# Altium schematic symbol library eLIB.SchLib: 178 symbols (part 1 of 2)
Pins are listed as number, name and electrical type; pins without a type are passive.

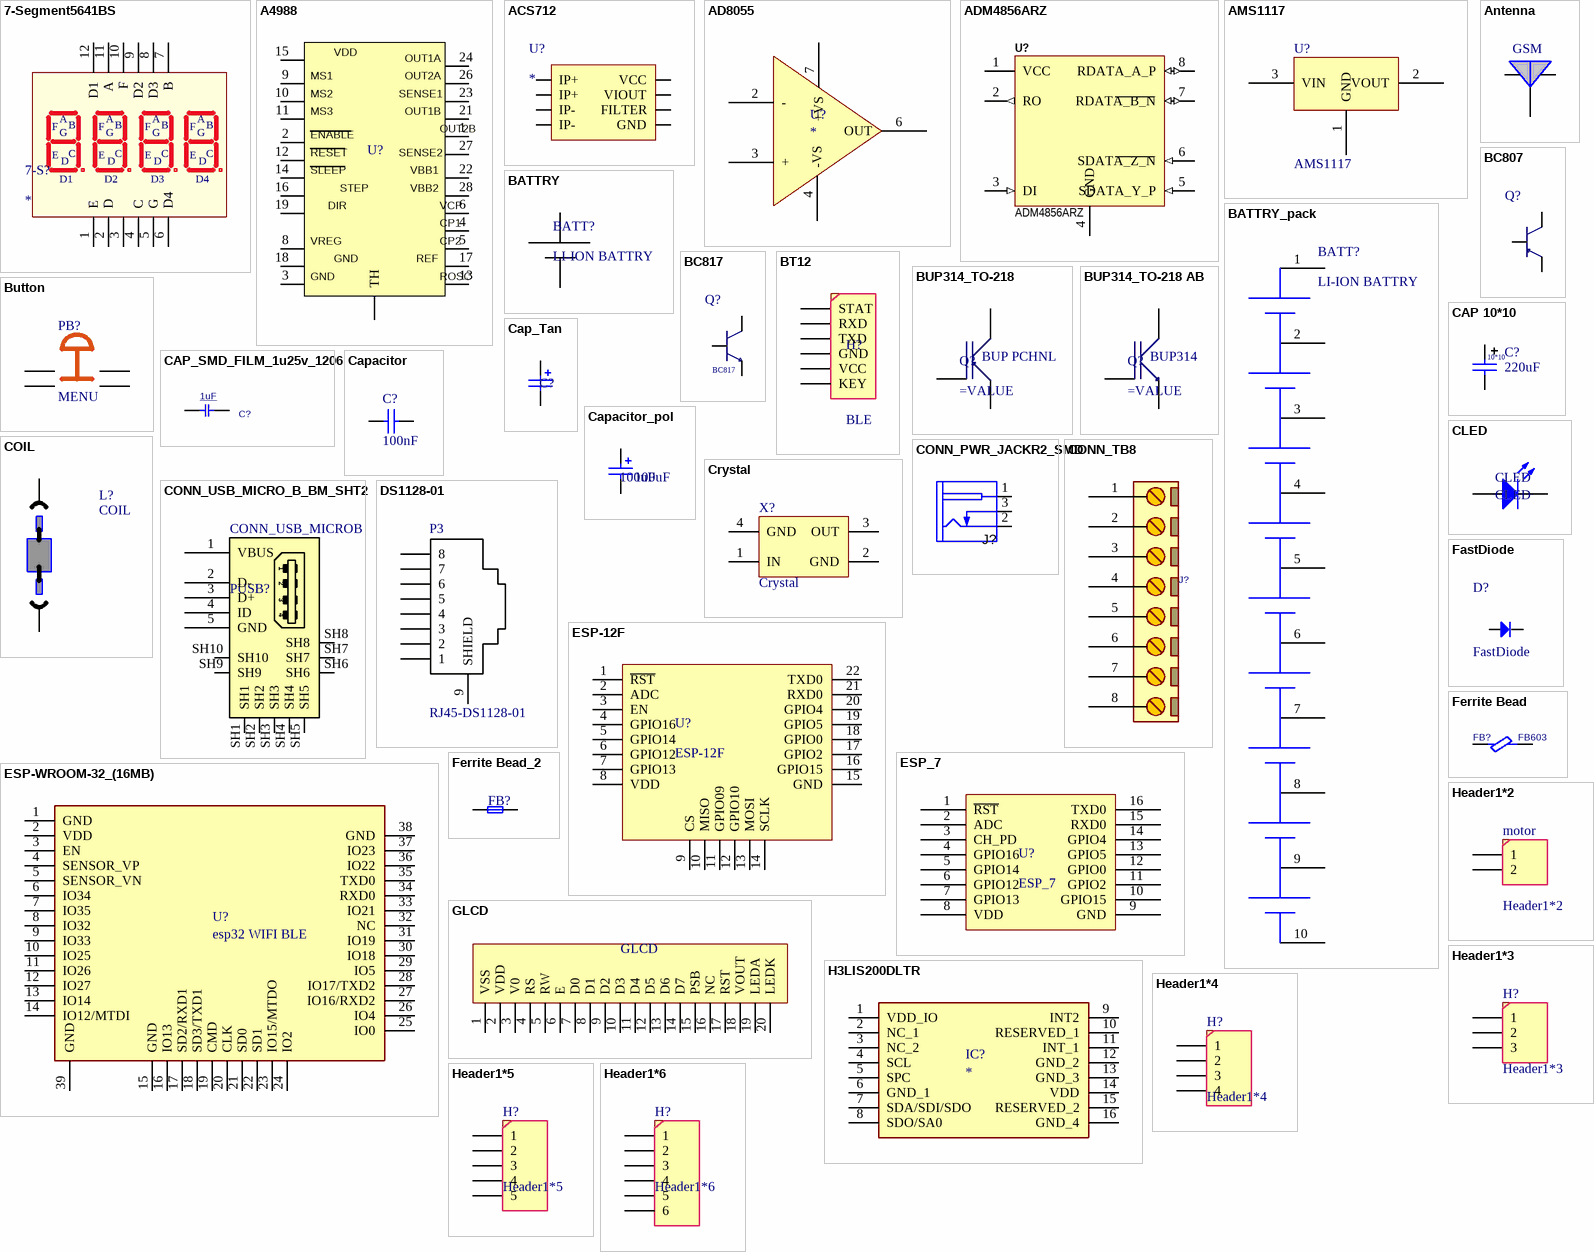
[diagram p0: symbols 7-Segment5641BS to Header1*6]

## 7-Segment5641BS
designator 7-S?
footprint 7SEGX4_12 (7SEG 4DIGIT 12pin Pitch: 2.54mm    5641 0.56", 19X50.3mm)
pins: 1 E, 2 D, 3, 4 C, 5 G, 6 D4, 7 B, 8 D3, 9 D2, 10 F, 11 A, 12 D1

## A4988
designator U?, comment stepper motor driver  (value not drawn)
footprint A4988 (stepper motor driver)
pins: 1, 2, 3, 4, 5, 6, 8, 9, 10, 11, 12, 13, 14, 15, 16, 17, 18, 19, 21, 22, 23, 24, 26, 27, 28, 29 TH
text: VDD; OUT1A; MS1; OUT2A; MS2; SENSE1; MS3; OUT1B; OUT2B; ENABLE; RESET; SENSE2; SLEEP; VBB1; STEP; VBB2; DIR; VCP; CP1; VREG; CP2; GND; REF; ROSC

## ACS712
designator U?
Sensing Current
footprint ACS712 (SOIC, 8-Leads, Body 4.90x3.90mm, Pitch 1.27mm, IPC Medium Density)
pins: 1 IP+, 2 IP+, 3 IP-, 4 IP-, 5 GND, 6 FILTER, 7 VIOUT, 8 VCC

## AD8055
designator U?
footprint LM358 (SOIC, 8-Leads, Body 4.90x3.90mm, Pitch 1.27mm, IPC Medium Density)
pins: 2 -, 3 +, 4 -VS, 6 OUT, 7 +VS

## ADM4856ARZ
designator U?
5 V, Slew Rate Limited, Full Duplex RS-485/RS-422 Transceivers; Published: 16-Jan-2001; LatestRevisionDate: 13-Apr-2006; LatestRevisionNote: IPC-7351 Footprint Added.; DatasheetVersion: Feb-1996; PackageReference: NSO8; Publisher: Altium Limited; PackageDescription: 8-Pin Small Outline Integrated Circuit 1.27 mm Pitch; Code_JEDEC: MS-012-AA; Code_IPC: SOIC127P600-8; ComponentLink1Description: Manufacturer Link; ComponentLink1URL: http://www.maxim-ic.com/; ComponentLink2Description: Datasheet; ComponentLink2URL: http://pdfserv.maxim-ic.com/en/ds/MAX1487-MAX491.pdf
footprint SOIC-8_NB-M
pins: 1 VCC (power), 2 RO (out), 3 DI (in), 4 GND (power), 5 SDATA_Y_P (in), 6 SDATA_Z_N (in), 7 RDATA_B_N (io), 8 RDATA_A_P (io)

## AMS1117
designator U?
IC REG LIN 3.3V
footprint AMS1117
footprint AMS1117
pins: 1 GND, 2 VOUT, 3 VIN

## Antenna
designator GSM  (value not drawn)
footprint IPX Connector (IPX Connector GSP/GPS antenna)
pins: 1, 2, 3

## BATTRY
designator BATT?, comment LI-ION BATTRY
footprint HEADER1*2 BATT (2.50mm Male Shrouded Header, 2p BATTERY PACK)
pins: 1 -, 2 +

## BATTRY_pack
designator BATT?, comment LI-ION BATTRY
footprint HEADER1*10 (2.50mm Male Shrouded Header, 10p)
pins: 1, 2, 3, 4, 5, 6, 7, 8, 9, 10

## BC807
designator Q?, comment PNP  (value not drawn)
45 V, 0.5 A
footprint NPN (SOT23, 3-Leads, Body 2.90x2.45mm, Pitch 0.95mm, IPC Medium Density)
pins: 1 B, 2 E, 3 C

## BC817
designator Q?, comment Transistor: BC817  (hidden comment: NPN transistor)
45 V, 0.5 A
footprint NPN (SOT23, 3-Leads, Body 2.90x2.45mm, Pitch 0.95mm, IPC Medium Density)
pins: 1 B, 2 E, 3 C

## BT12
designator H?, comment BLE
Header, 6-Pin HM-10 BLE; LatestRevisionDate: 17-Jul-2002; LatestRevisionNote: Re-released for DXP Platform.; Publisher: Altium Limited
footprint PIN HEADER 1*6 FEMALE (Socket Header, Pitch 2.54 mm, THT, Vertical, single row, 6p)
pins: 1 STAT, 2 RXD, 3 TXD, 4 GND, 5 VCC, 6 KEY

## BUP314_TO-218
designator Q?  Transistor: BUP PCHNL
VCE=1200V, IC=52A
footprint TO218_3B (O218, TO-218, SOT-93, pitch: 5.5mm BENDED)
pins: 1 B, 2 C, 3 E

## BUP314_TO-218 AB
designator Q?  Transistor: BUP314
VCE=1200V, IC=52A
footprint TO218_3B (O218, TO-218, SOT-93, pitch: 5.5mm BENDED)
pins: 1 B, 2 C, 3 E

## Button
designator PB?, comment MENU
Button
footprint Button
pins: 1, 1 4, 2, 2 3

## CAP 10*10
designator C?, comment 220uF
footprint CAP 10*10
pins: 1, 2
text: 10*10

## CAP_SMD_FILM_1u25v_1206
designator C?, comment 1uF
CAP, FILM, 1uF, 25V, Acryl, 20%, 1206; PARAM: AcrylicMetallized, 20%, -55~125oC; MANF_P#: 25MU105MA23216; MANF: Rubycon; PRICE: 100= 290$; DESC: -; PARAM2: 25V; ASSEMBLY: ASSEMBLY; VALUE: 1uF
footprint C1206 (CHIP Capacitor, 3.2X1.6mm, 1206)
pins: 1, 2

## Cap_Tan
designator C?, comment Capacitor  (value not drawn)
Tantalium Capacitor Size C; Published: 8-Jun-2000; LatestRevisionDate: 17-Jul-2002; LatestRevisionNote: Re-released for DXP Platform.; PackageReference: C0805; Publisher: Altium Limited
footprint C1206
footprint CAP TAN C (tantalum capacitor c package)
pins: 1, 2
1 alternate drawing of the same symbol

## Capacitor
designator C?, comment 100nF
Capacitor; Published: 8-Jun-2000; LatestRevisionDate: 17-Jul-2002; LatestRevisionNote: Re-released for DXP Platform.; PackageReference: C0805; Publisher: Altium Limited; Value: 100nF
footprint C1206
footprint CAPC0603
pins: 1, 2
1 alternate drawing of the same symbol

## Capacitor_pol
designator 100uF, comment value 100uF  (hidden comment: CAPACITOR)
C100uF-50V
footprint C470uF-SMD-16V (Chip Capacitor, 2-Leads, Body 7.25x4.15mm, IPC Medium Density)
pins: 1, 2
1 alternate drawing of the same symbol

## CLED
designator CLED
footprint CLED
pins: 1 A, 2 K

## COIL
designator L?
footprint PWR
pins: 1, 2

## CONN_PWR_JACKR2_SMD
designator J?, comment PWR_JACK  (value not drawn)
CONN, PWR JACK, SMD  2.0mm x 6.3mm; MANF: CUI Inc; MANF_P#: PJ-036A-SMT; VALUE: PWR_JACK
footprint JAC_PWR2_SMD (DC POWER JACK, CUI PJ-036A-SMT)
pins: 1 TIP (power), 2 SLEEVE (power), 3 INSERTION_DET (power)

## CONN_TB8
designator J?  (value not drawn)
CONN, TERMINAL BLOCK, 5.08mm pitch; VALUE: CONN_TB8
footprint TBG_8 (Terminal Block Green)
footprint TBB_8 (Terminal Block Blue)
pins: 1, 2, 3, 4, 5, 6, 7, 8

## CONN_USB_MICRO_B_BM_SHT2
designator PUSB?, comment CONN_USB_MICROB
CONN, USB, MICRO B, R/A, SMD, BOTTOM MOUNT, SHT; MANF_P#: 47590-0001; MANF: MOLEX; VALUE: CONN_USB_MICROB
footprint USB_MICRO_B_BM_SHT2 (CONN, USB Micro AB - Standard (Bottom mount), Shell SMT)
pins: 1 VBUS (power), 2 D-, 3 D+, 4 ID (power), 5 GND (power), SH1, SH2, SH3, SH4, SH5, SH6, SH7, SH8, SH9, SH10

## Crystal
designator X?
ABM3B-8.000MHZ-B2
footprint ABM3B-8.000MHZ-B2
pins: 1 IN, 2 GND, 3 OUT, 4 GND

## DS1128-01
designator P3, comment RJ45-DS1128-01
RJ45-DS1128-01 Connector KAVAN legacy
footprint RJ45-DS1128-01 (HanRun)
pins: 1, 2, 3, 4, 5, 6, 7, 8, 9 SHIELD

## ESP-12F
designator U?
ESP-12F wifi module
footprint ESP-12F (ESP-12F WIFI MODULE)
pins: 1 ~{RST} "Reset", 2 ADC "ADC Input Or TOUT Output", 3 EN "Chip enable", 4 GPIO16 "GPIO16 or Deep-Sleep Wakeup", 5 GPIO14 "GPIO14 or SPI CLK", 6 GPIO12 "GPIO12 or SPIQ", 7 GPIO13 "GPIO13 or SPID", 8 VDD "Power supply", 9 CS "Power ground", 10 MISO "GPIO15 or SPICS", 11 GPIO09 "GPIO2", 12 GPIO10 "GPIO0", 13 MOSI "GPIO5", 14 SCLK "GPIO4", 15 GND "Power ground", 16 GPIO15 "GPIO15 or SPICS", 17 GPIO2, 18 GPIO0, 19 GPIO5, 20 GPIO4, 21 RXD0 "GPIO3 or UART RXD", 22 TXD0

## ESP-WROOM-32_(16MB)
designator U?, comment esp32 WIFI BLE
Integrated Circuit; Manufacturer_Name: Espressif; Manufacturer_Part_Number: ESP-WROOM-32 (16MB); Datasheet Link: https://www.mouser.com/datasheet/2/891/esp-wroom-32_datasheet_en-1365813.pdf; Height: 3.1mm; Mouser Part Number: 356-ESPWROOM3216MB
footprint ESP32WROOM32D
pins: 1 GND, 2 VDD, 3 EN, 4 SENSOR_VP, 5 SENSOR_VN, 6 IO34, 7 IO35, 8 IO32, 9 IO33, 10 IO25, 11 IO26, 12 IO27, 13 IO14, 14 IO12/MTDI, 15 GND, 16 IO13, 17 SD2/RXD1, 18 SD3/TXD1, 19 CMD, 20 CLK, 21 SD0, 22 SD1, 23 IO15/MTDO, 24 IO2, 25 IO0, 26 IO4, 27 IO16/RXD2, 28 IO17/TXD2, 29 IO5, 30 IO18, 31 IO19, 32 NC, 33 IO21, 34 RXD0, 35 TXD0, 36 IO22, 37 IO23, 38 GND, 39 GND

## ESP_7
designator U?
footprint ESP_7
pins: 1 ~{RST} "Reset", 2 ADC "ADC Input Or TOUT Output", 3 CH_PD "Chip enable", 4 GPIO16 "GPIO16 or Deep-Sleep Wakeup", 5 GPIO14 "GPIO14 or SPI CLK", 6 GPIO12 "GPIO12 or SPIQ", 7 GPIO13 "GPIO13 or SPID", 8 VDD "Power supply", 9 GND "Power ground", 10 GPIO15 "GPIO15 or SPICS", 11 GPIO2, 12 GPIO0, 13 GPIO5, 14 GPIO4, 15 RXD0 "GPIO3 or UART RXD", 16 TXD0

## FastDiode
designator D?
Published: 8-Jun-2000; LatestRevisionDate: 17-Dec-2003; LatestRevisionNote: PCB Footprint replaced.; DatasheetDocument: 16-Apr-2002; PackageDocument: 16-Apr-2002; PackageReference: 3.5X2.8X1.9; Publisher: Altium Limited
footprint FastDiode
pins: 1 A, 2 K

## Ferrite Bead
designator FB?, comment FB603
FERRITE_Bead, 0402, 0.5A, 200mOhm, 120@100MHz; MANF: MURATA; MANF_P#: BLM15AG121SN1D; PARAM: 120@100MHz; PARAM2: 0.5A, 200mOhm; VALUE: FB603
footprint L0402 (INDUCTOR, FERRITE BEAD, 0402, 1.0X0.5mm)
pins: 1, 2

## Ferrite Bead_2
designator FB?, comment Ferrite  (value not drawn)
Ferrite Bead; Published: 8-Jun-2000; LatestRevisionDate: 17-Jul-2002; LatestRevisionNote: Re-released for DXP Platform.; PackageReference: AXIAL-0.4; Publisher: Altium Limited
footprint RESC0603
footprint RESC2012M (Chip Resistor, Body 2.0x1.3mm, IPC Low Density)
pins: 1, 2

## GLCD
designator GLCD  (value not drawn)
GLCD Header 20-Pin; LatestRevisionDate: 17-Jul-2002; LatestRevisionNote: Re-released for DXP Platform.; Publisher: Altium Limited
footprint GLCD
pins: 1 VSS, 2 VDD, 3 V0, 4 RS, 5 RW, 6 E, 7 D0, 8 D1, 9 D2, 10 D3, 11 D4, 12 D5, 13 D6, 14 D7, 15 PSB, 16 NC, 17 RST, 18 VOUT, 19 LEDA, 20 LEDK

## H3LIS200DLTR
designator IC?
Integrated Circuit; Manufacturer_Name: STMicroelectronics; Manufacturer_Part_Number: H3LIS200DLTR; Datasheet Link: http://uk.rs-online.com/web/p/products/1116449; Mouser Part Number: 511-H3LIS200DLTR; Mouser Price/Stock: https://www.mouser.com/Search/Refine.aspx?Keyword=511-H3LIS200DLTR; RS Part Number: 1116449P; RS Price/Stock: http://uk.rs-online.com/web/p/products/1116449P
footprint LGA16R50P3X5_300X300X100
pins: 1 VDD_IO, 2 NC_1, 3 NC_2, 4 SCL, 5 SPC, 6 GND_1, 7 SDA/SDI/SDO, 8 SDO/SA0, 9 INT2, 10 RESERVED_1, 11 INT_1, 12 GND_2, 13 GND_3, 14 VDD, 15 RESERVED_2, 16 GND_4

## Header1*2
designator motor
Header, 2-Pin
footprint HEADER1*2 (2.50mm Male Shrouded Header, 2p)
pins: 1, 2

## Header1*3
designator H?
Header, 3-Pin; LatestRevisionDate: 17-Jul-2002; LatestRevisionNote: Re-released for DXP Platform.; Publisher: Altium Limited
footprint HEADER1*3 (2.50mm Male Shrouded Header, 3p)
pins: 1, 2, 3

## Header1*4
designator H?
Header, 4-Pin
footprint HEADER1*4 (2.50mm Male Shrouded Header, 4p)
pins: 1, 2, 3, 4

## Header1*5
designator H?
Header, 5-Pin; LatestRevisionDate: 17-Jul-2002; LatestRevisionNote: Re-released for DXP Platform.; Publisher: Altium Limited
footprint HEADER1*5 (2.50mm Male Shrouded Header, 5p)
pins: 1, 2, 3, 4, 5

## Header1*6
designator H?
Header, 6-Pin; LatestRevisionDate: 17-Jul-2002; LatestRevisionNote: Re-released for DXP Platform.; Publisher: Altium Limited
footprint HEADER1*5 (2.50mm Male Shrouded Header, 5p)
pins: 1, 2, 3, 4, 5, 6

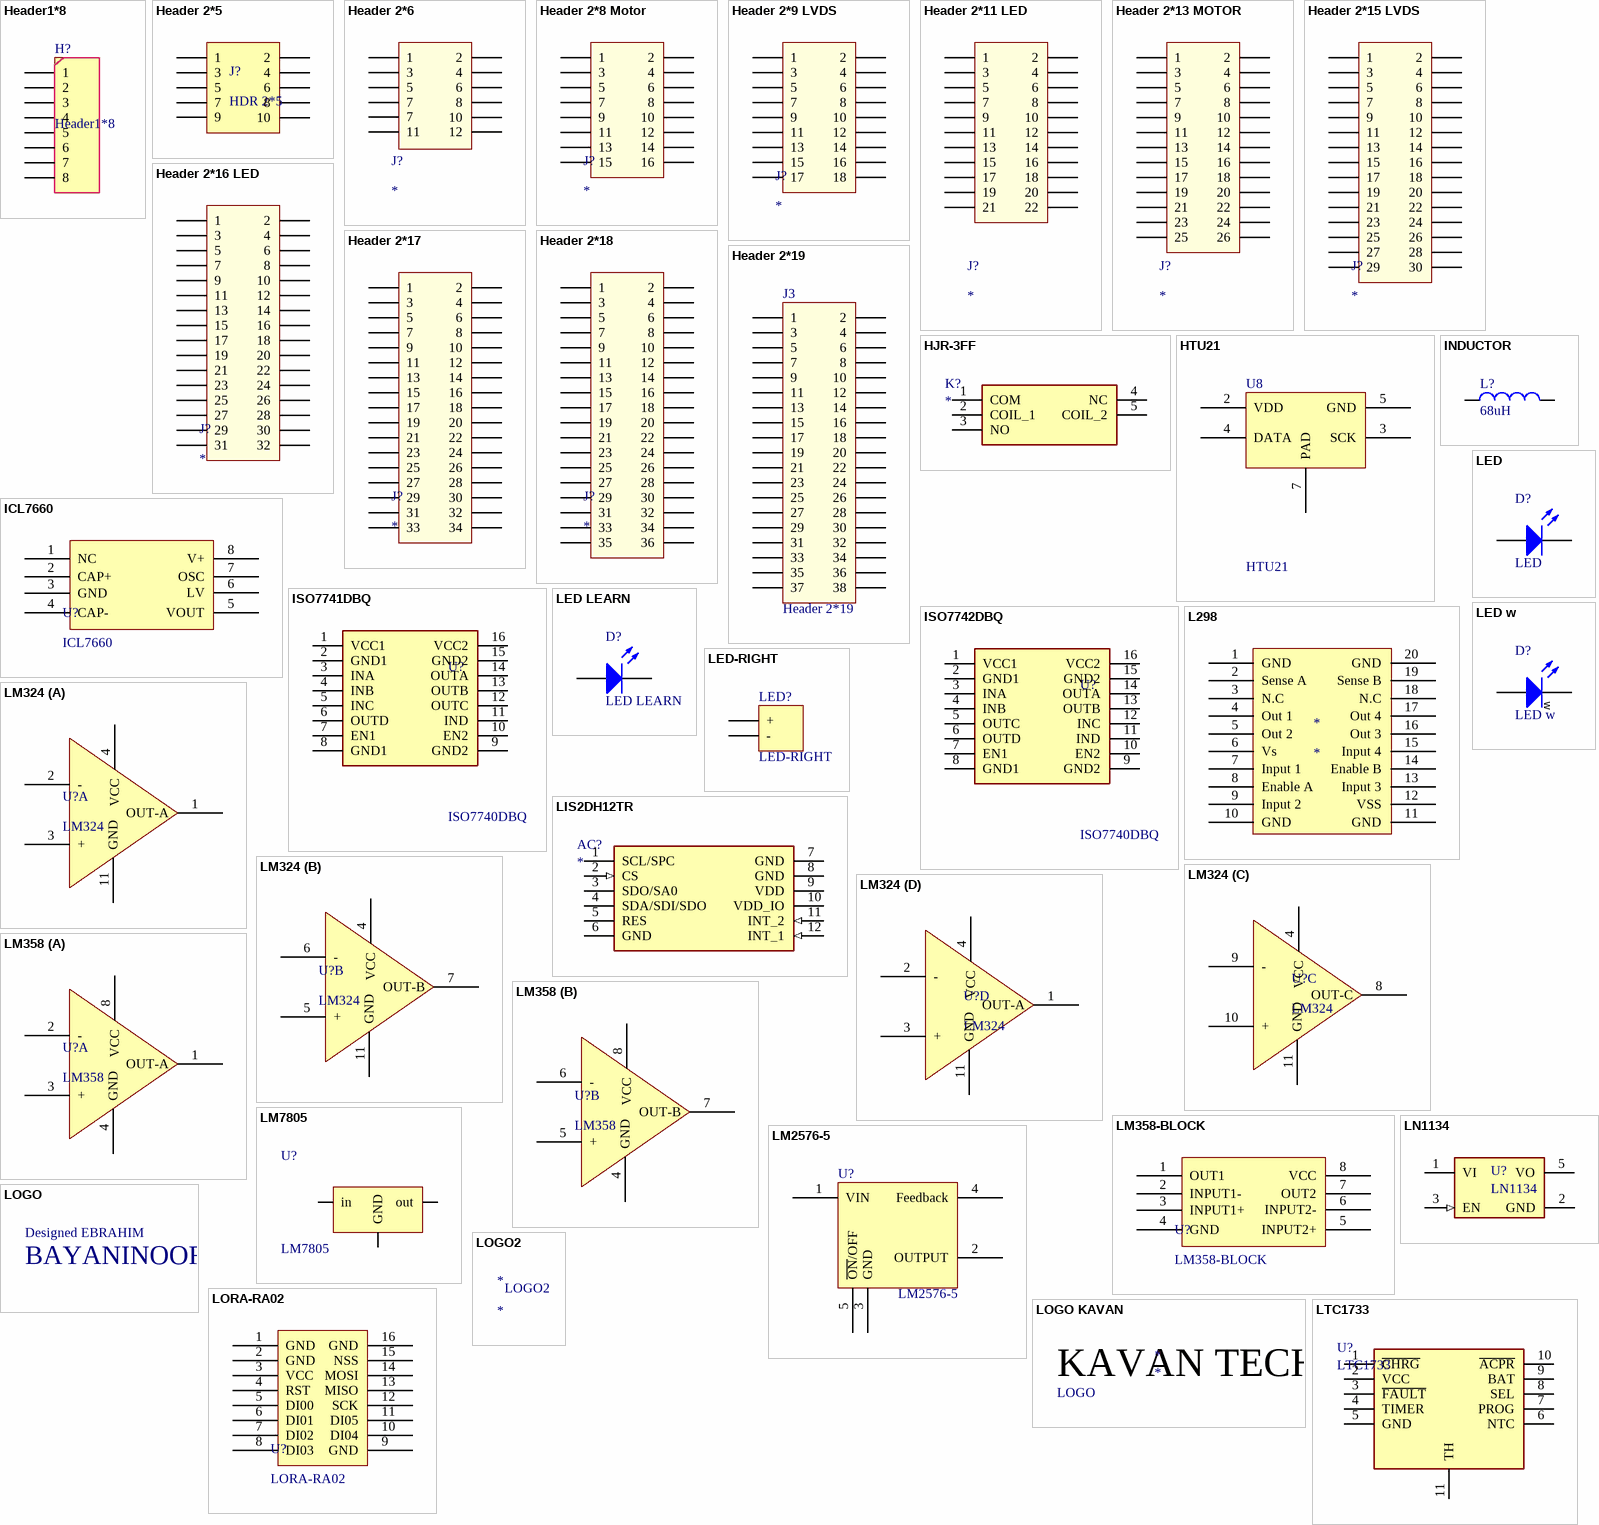
[diagram p1: symbols Header1*8 to LTC1733]

## Header1*8
designator H?
Header, 8-Pin; LatestRevisionDate: 17-Jul-2002; LatestRevisionNote: Re-released for DXP Platform.; Publisher: Altium Limited
footprint HEADER1*5 (2.50mm Male Shrouded Header, 5p)
pins: 1, 2, 3, 4, 5, 6, 7, 8

## Header 2*5
designator J?, comment HDR 2*5
Header 2*5
footprint HDR 2×5
pins: 1, 2, 3, 4, 5, 6, 7, 8, 9, 10

## Header 2*6
designator J?
Header 2*6
footprint HDR_F_2X6 (Connector; Header; 2mm Pitch)
pins: 1, 2, 3, 4, 5, 6, 7, 7, 8, 10, 11, 12

## Header 2*8 Motor
designator J?
Header 2*8 Motor 2mm
pins: 1, 2, 3, 4, 5, 6, 7, 8, 9, 10, 11, 12, 13, 14, 15, 16

## Header 2*9 LVDS
designator J?
Header 2*9 LVDS 2mm
pins: 1, 2, 3, 4, 5, 6, 7, 8, 9, 10, 11, 12, 13, 14, 15, 16, 17, 18

## Header 2*11 LED
designator J?
Header 2*11 LED 2mm
footprint HDR2_F_2X11 (Connector; Header; 2mm Pitch)
pins: 1, 2, 3, 4, 5, 6, 7, 8, 9, 10, 11, 12, 13, 14, 15, 16, 17, 18, 19, 20, 21, 22

## Header 2*13 MOTOR
designator J?
Header 2*13 MOTOR 2mm
pins: 1, 2, 3, 4, 5, 6, 7, 8, 9, 10, 11, 12, 13, 14, 15, 16, 17, 18, 19, 20, 21, 22, 23, 24, 25, 26

## Header 2*15 LVDS
designator J?
Header 2*15 LVDS 2mm
pins: 1, 2, 3, 4, 5, 6, 7, 8, 9, 10, 11, 12, 13, 14, 15, 16, 17, 18, 19, 20, 21, 22, 23, 24, 25, 26, 27, 28, 29, 30

## Header 2*16 LED
designator J?
Header 2*16 LED 2mm
pins: 1, 2, 3, 4, 5, 6, 7, 8, 9, 10, 11, 12, 13, 14, 15, 16, 17, 18, 19, 20, 21, 22, 23, 24, 25, 26, 27, 28, 29, 30, 31, 32

## Header 2*17
designator J?
Header 2*17 2mm
footprint HDR2_F_2X19 (Connector; Header; 2mm Pitch)
pins: 1, 2, 3, 4, 5, 6, 7, 8, 9, 10, 11, 12, 13, 14, 15, 16, 17, 18, 19, 20, 21, 22, 23, 24, 25, 26, 27, 28, 29, 30, 31, 32, 33, 34

## Header 2*18
designator J?
Header 2*18 2mm
footprint HDR2_F_2X18 (Connector; Header; 2mm Pitch)
pins: 1, 2, 3, 4, 5, 6, 7, 8, 9, 10, 11, 12, 13, 14, 15, 16, 17, 18, 19, 20, 21, 22, 23, 24, 25, 26, 27, 28, 29, 30, 31, 32, 33, 34, 35, 36

## Header 2*19
designator J3
Header 2*19 2mm
footprint HDR2_F_2X18 (Connector; Header; 2mm Pitch)
footprint HDR2_F_2X19 (Connector; Header; 2mm Pitch)
pins: 1, 2, 3, 4, 5, 6, 7, 8, 9, 10, 11, 12, 13, 14, 15, 16, 17, 18, 19, 20, 21, 22, 23, 24, 25, 26, 27, 28, 29, 30, 31, 32, 33, 34, 35, 36, 37, 38

## HJR-3FF
designator K?
Relay or Contactor; Manufacturer_Name: TIANBO Electronics; Manufacturer_Part_Number: HJR-3FF; Datasheet Link: http://www.tianbo-relay.com/bigimg/18.pdf
footprint HJR-3FF
footprint HJR-3FF (RELAY 7AAC)
pins: 1 COM, 2 COIL_1, 3 NO, 4 NC, 5 COIL_2

## HTU21
designator U8
footprint HTU21D (PQFN, 6-Leads, Body 3.00x3.00mm, Pitch 1.00mm, Thermal Pad 1.50x2.40mm, IPC Medium Density)
pins: 2 VDD (power), 3 SCK, 4 DATA, 5 GND (power), 7 PAD

## ICL7660
designator U?
negative voltage shifter
footprint LM358 (SOIC, 8-Leads, Body 4.90x3.90mm, Pitch 1.27mm, IPC Medium Density)
pins: 1 NC, 2 CAP+, 3 GND, 4 CAP-, 5 VOUT, 6 LV, 7 OSC, 8 V+

## INDUCTOR
designator L?  value 68uH  (hidden comment: INDUCTOR)
Code_IEC: 1005; Published: 8-Jun-2000; LatestRevisionDate: 17-Jul-2002; LatestRevisionNote: Re-released for DXP Platform.; PackageReference: 0402-A; Publisher: Altium Limited; Code_JEITA: 0402
footprint 68uH-10*10 (INDUCTOR-150mA)
pins: 1, 2

## ISO7741DBQ
designator U?, comment ISO7740DBQ
Digital Isolators High-Speed,Low-Power Robust EMC; Manufacturer_Name: Texas Instruments; Datasheet Link: http://www.ti.com/lit/gpn/iso7740; Height: 1.75mm; Manufacturer_Part_Number: ISO7740DBQ; Mouser Part Number: 595-ISO7740DBQ; Mouser Price/Stock: https://www.mouser.com/Search/Refine.aspx?Keyword=595-ISO7740DBQ
footprint SOP64P600X175-16N
pins: 1 VCC1, 2 GND1, 3 INA, 4 INB, 5 INC, 6 OUTD, 7 EN1, 8 GND1, 9 GND2, 10 EN2, 11 IND, 12 OUTC, 13 OUTB, 14 OUTA, 15 GND2, 16 VCC2

## ISO7742DBQ
designator U?, comment ISO7740DBQ
Digital Isolators High-Speed,Low-Power Robust EMC; Manufacturer_Name: Texas Instruments; Datasheet Link: http://www.ti.com/lit/gpn/iso7740; Height: 1.75mm; Manufacturer_Part_Number: ISO7740DBQ; Mouser Part Number: 595-ISO7740DBQ; Mouser Price/Stock: https://www.mouser.com/Search/Refine.aspx?Keyword=595-ISO7740DBQ
footprint SOP64P600X175-16N
pins: 1 VCC1, 2 GND1, 3 INA, 4 INB, 5 OUTC, 6 OUTD, 7 EN1, 8 GND1, 9 GND2, 10 EN2, 11 IND, 12 INC, 13 OUTB, 14 OUTA, 15 GND2, 16 VCC2

## L298
designator *
footprint L298 (SOP, 20-Leads, Body 15.90x11.00mm, Pitch 1.27mm, Thermal Pad 9.80x6.20mm, IPC Medium Density)
pins: 1 GND (power), 2 Sense A, 3 N.C, 4 Out 1, 5 Out 2, 6 Vs, 7 Input 1, 8 Enable A, 9 Input 2, 10 GND (power), 11 GND (power), 12 VSS (power), 13 Input 3, 14 Enable B, 15 Input 4, 16 Out 3, 17 Out 4, 18 N.C, 19 Sense B, 20 GND (power)

## LED
designator D?
Published: 8-Jun-2000; LatestRevisionDate: 17-Dec-2003; LatestRevisionNote: PCB Footprint replaced.; DatasheetDocument: 16-Apr-2002; PackageDocument: 16-Apr-2002; PackageReference: 3.5X2.8X1.9; Publisher: Altium Limited
footprint LED 2835 (LED 2835 3.5mm * 2.75mm 0.2W 3V)
pins: 1 A, 2 K

## LED LEARN
designator D?
LED; Published: 8-Jun-2000; LatestRevisionDate: 17-Dec-2003; LatestRevisionNote: PCB Footprint replaced.; DatasheetDocument: 16-Apr-2002; PackageDocument: 16-Apr-2002; PackageReference: 3.5X2.8X1.9; Publisher: Altium Limited
footprint LearnLED
pins: 1 K, 2 A

## LED w
designator D?
LED; Published: 8-Jun-2000; LatestRevisionDate: 17-Dec-2003; LatestRevisionNote: PCB Footprint replaced.; DatasheetDocument: 16-Apr-2002; PackageDocument: 16-Apr-2002; PackageReference: 3.5X2.8X1.9; Publisher: Altium Limited
footprint LED 2835 warm (LED 2835 3.5mm * 2.75mm 0.2W 3V)
pins: 1 A, 2 K
text: w

## LED-RIGHT
designator LED?
LatestRevisionDate: 17-Jul-2002; LatestRevisionNote: Re-released for DXP Platform.; Publisher: Altium Limited
footprint PWR-RIGHT
pins: 1 +, 2 -

## LIS2DH12TR
designator AC?
Accelerometer; Manufacturer_Name: STMicroelectronics; Manufacturer_Part_Number: LIS2DH12TR; Datasheet Link: http://docs-emea.rs-online.com/webdocs/13f2/0900766b813f2467.pdf; Height: 1mm; Mouser Part Number: 511-LIS2DH12TR; Mouser Price/Stock: https://www.mouser.com/Search/Refine.aspx?Keyword=511-LIS2DH12TR; RS Part Number: 1458888; RS Price/Stock: http://uk.rs-online.com/web/p/products/1458888
footprint LIS2D (accelerator)
pins: 1 SCL/SPC, 2 CS (in), 3 SDO/SA0, 4 SDA/SDI/SDO, 5 RES, 6 GND (power), 7 GND (power), 8 GND (power), 9 VDD (power), 10 VDD_IO (power), 11 INT_2 (in), 12 INT_1 (in)

## LM324
designator U?
Single Supply Dual Operational Amplifier
footprint LM324 (SOIC, 14-Leads, Body 8.65x3.90mm, Pitch 1.27mm, IPC Medium Density)
part A pins: 1 OUT-A, 2 -, 3 +, 4 VCC, 11 GND
part B pins: 4 VCC, 5 +, 6 -, 7 OUT-B, 11 GND
part C pins: 4 VCC, 8 OUT-C, 9 -, 10 +, 11 GND
part D pins: 1 OUT-A, 2 -, 3 +, 4 VCC, 11 GND

## LM358
designator U?
Single Supply Dual Operational Amplifier
footprint LM358 (SOIC, 8-Leads, Body 4.90x3.90mm, Pitch 1.27mm, IPC Medium Density)
part A pins: 1 OUT-A, 2 -, 3 +, 4 GND, 8 VCC
part B pins: 4 GND, 5 +, 6 -, 7 OUT-B, 8 VCC

## LM358-BLOCK
designator U?
footprint LM358 (SOIC, 8-Leads, Body 4.90x3.90mm, Pitch 1.27mm, IPC Medium Density)
pins: 1 OUT1, 2 INPUT1-, 3 INPUT1+, 4 GND, 5 INPUT2+, 6 INPUT2-, 7 OUT2, 8 VCC

## LM2576-5
designator U?
footprint LM2576-5
pins: 1 VIN, 2 OUTPUT, 3 GND, 4 Feedback, 5 ~{ON}/OFF

## LM7805
designator U?
IC REG LIN 5V 1A
footprint LM7805
pins: 1 in, 2 GND, 3 out

## LN1134
designator U?
Low dropout regulator 300ma; Manufacturer_Name: Microchip; Manufacturer_Part_Number: 24AA64FT-I/OT; Datasheet Link: http://ww1.microchip.com/downloads/en/DeviceDoc/21189T.pdf; Height: 1.45mm; Mouser Part Number: 579-24AA64FT-I/OT; Mouser Price/Stock: https://www.mouser.com/Search/Refine.aspx?Keyword=579-24AA64FT-I%2FOT; RS Part Number: 8250991; RS Price/Stock: https://uk.rs-online.com/web/p/products/8250991
footprint LN1134 (Low drop out regulator 300ma  SOT-23-5)
pins: 1 VI (power), 2 GND (power), 3 EN (in), 5 VO (power)

## LOGO
designator Designed EBRAHIM
footprint LOGO
text: BAYANINOOR

## LOGO2
designator *
footprint LOGO2

## LOGO KAVAN
designator *
LOGO: LOGO
footprint LOGO KAVAN
text: KAVAN TECH

## LORA-RA02
designator U?
LORA-RA02 wireless transceiver
footprint LORA-RA02 (SOP, 16-Leads, Body 17.00x14.00mm, Pitch 2.00mm, IPC Medium Density)
pins: 1 GND (power), 2 GND (power), 3 VCC (power), 4 RST, 5 DI00, 6 DI01, 7 DI02, 8 DI03, 9 GND (power), 10 DI04, 11 DI05, 12 SCK, 13 MISO, 14 MOSI, 15 NSS, 16 GND (power)

## LTC1733
designator U?
Battery charger 1A; Manufacturer_Name: Linear Technology; Manufacturer_Part_Number: LTC1733EMSE#PBF; Datasheet Link: https://componentsearchengine.com/Datasheets/2/LTC1733EMSE#PBF.pdf; Height: 1.04mm; Mouser Part Number: 584-LTC1733EMSE#PBF; Mouser Price/Stock: https://www.mouser.com/Search/Refine.aspx?Keyword=584-LTC1733EMSE%23PBF; RS Part Number: 8226727; RS Price/Stock: https://uk.rs-online.com/web/p/products/8226727
footprint LTC1733 (Battery charger 1A MSOP)
pins: 1 ~{CHRG}, 2 VCC, 3 ~{FAULT}, 4 TIMER, 5 GND, 6 NTC, 7 PROG, 8 SEL, 9 BAT, 10 ~{ACPR}, 11 TH

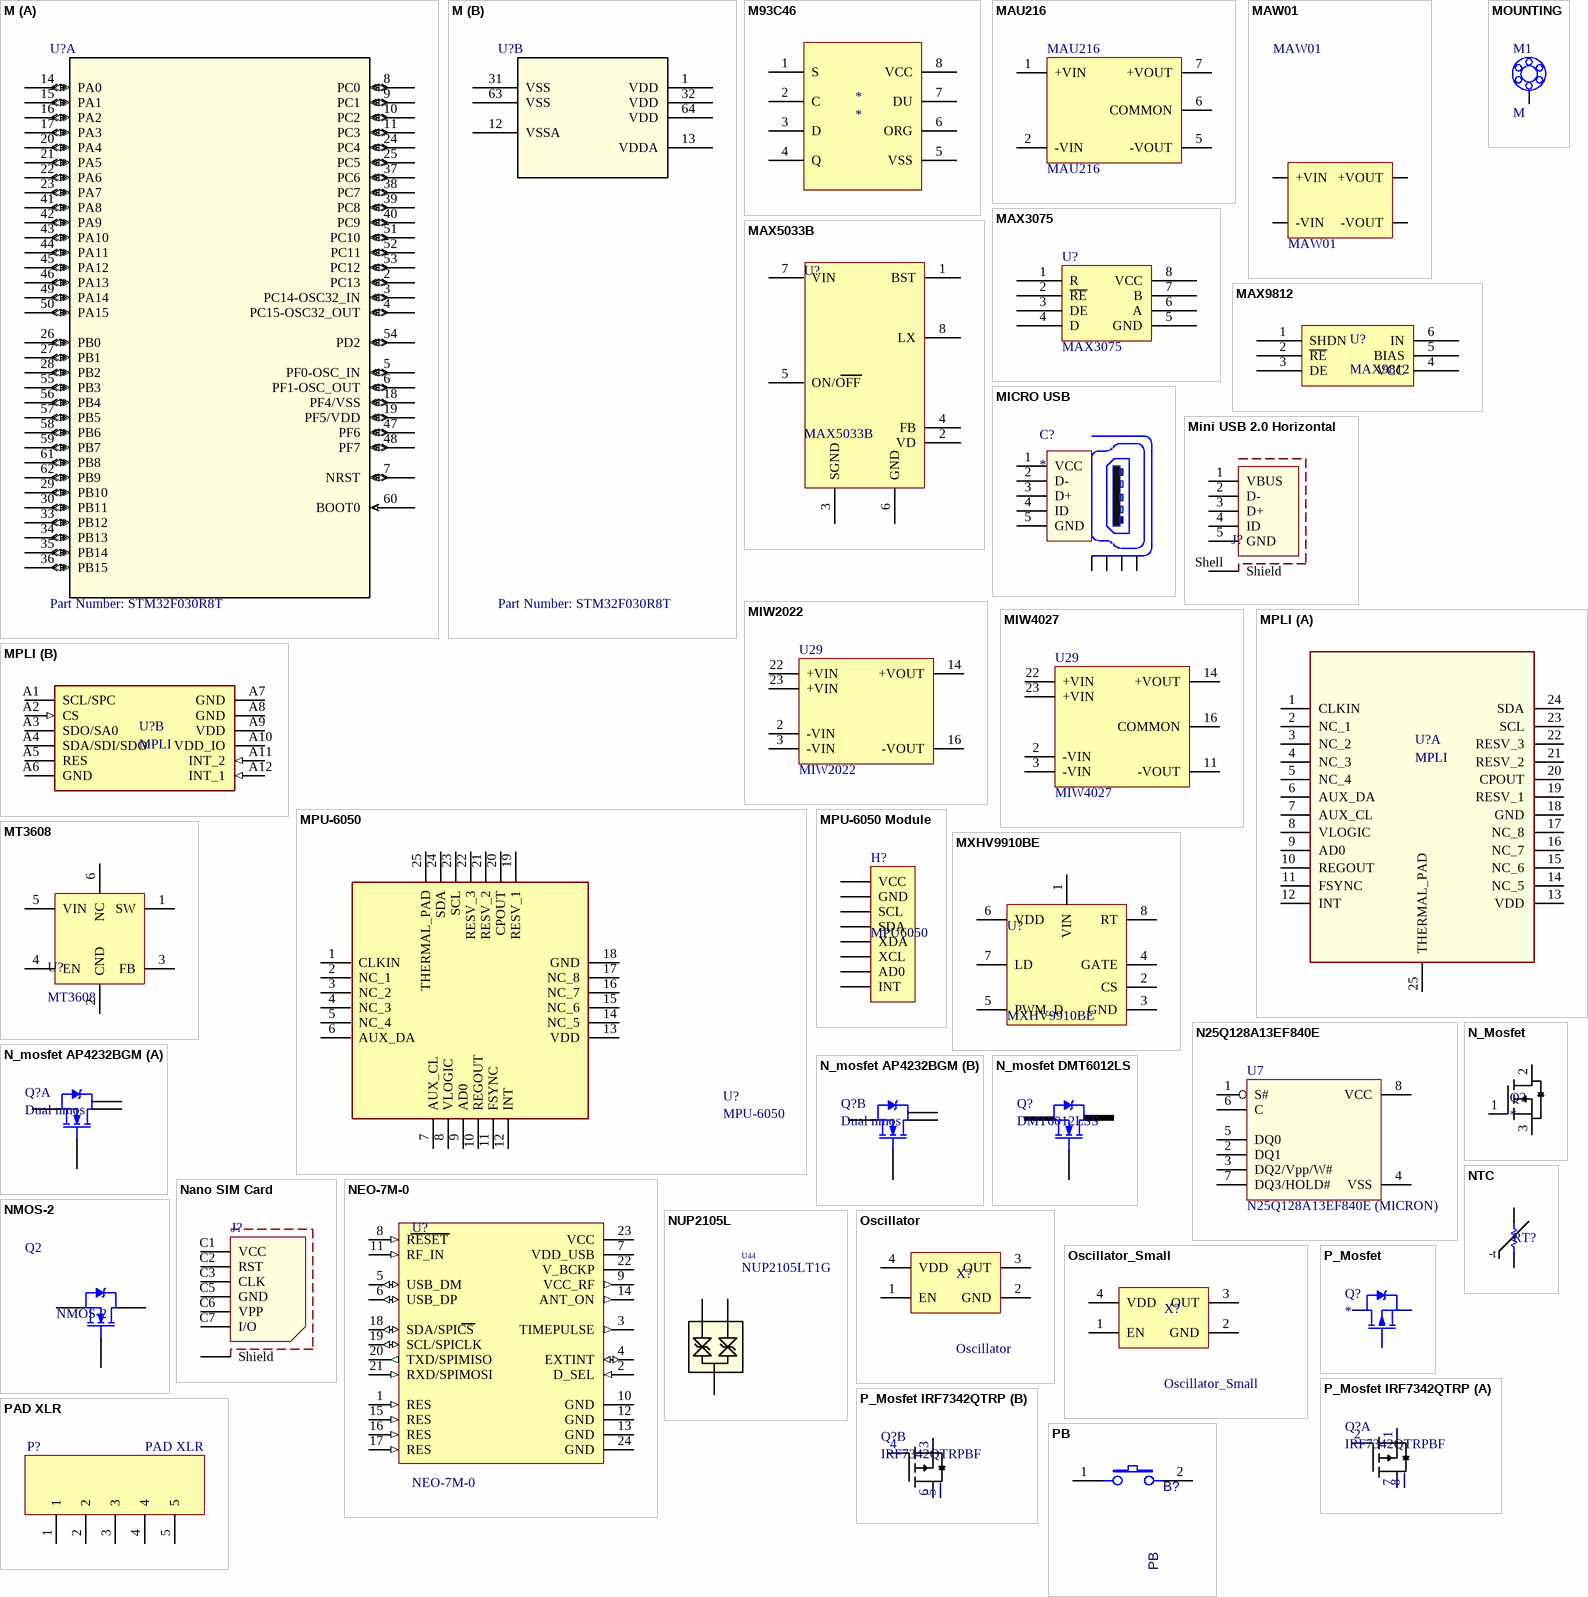
[diagram p2: symbols M to PB]

## M
designator U?, comment Part Number: STM32F030R8T
No Description Available; Vendor: STMicroelectronics; Built_By: EMA_UL_Team; Manufacturer_Part_Number: STM32F030R8T; Copyright: Copyright (C) 2018 Accelerated Designs. All rights reserved; RefDes: RefDes; Type: DEV; Value: Value
footprint STM32F103RET6 (TSQFP, 64-Leads, Body 10.00x10.00mm, Pitch 0.50mm, IPC Medium Density)
footprint STM32F103RET6 (TSQFP, 64-Leads, Body 10.00x10.00mm, Pitch 0.50mm, IPC Medium Density)
part A pins: 2 PC13 (io), 3 PC14-OSC32_IN (io), 4 PC15-OSC32_OUT (io), 5 PF0-OSC_IN (io), 6 PF1-OSC_OUT (io), 7 NRST (io), 8 PC0 (io), 9 PC1 (io), 10 PC2 (io), 11 PC3 (io), 14 PA0 (io), 15 PA1 (io), 16 PA2 (io), 17 PA3 (io), 18 PF4/VSS (io), 19 PF5/VDD (io), 20 PA4 (io), 21 PA5 (io), 22 PA6 (io), 23 PA7 (io), 24 PC4 (io), 25 PC5 (io), 26 PB0 (io), 27 PB1 (io), 28 PB2 (io), 29 PB10 (io), 30 PB11 (io), 33 PB12 (io), 34 PB13 (io), 35 PB14 (io), 36 PB15 (io), 37 PC6 (io), 38 PC7 (io), 39 PC8 (io), 40 PC9 (io), 41 PA8 (io), 42 PA9 (io), 43 PA10 (io), 44 PA11 (io), 45 PA12 (io), 46 PA13 (io), 47 PF6 (io), 48 PF7 (io), 49 PA14 (io), 50 PA15 (io), 51 PC10 (io), 52 PC11 (io), 53 PC12 (io), 54 PD2 (io), 55 PB3 (io), 56 PB4 (io), 57 PB5 (io), 58 PB6 (io), 59 PB7 (io), 60 BOOT0 (in), 61 PB8 (io), 62 PB9 (io)
part B pins: 1 VDD (power), 12 VSSA (power), 13 VDDA (power), 31 VSS (power), 32 VDD (power), 63 VSS (power), 64 VDD (power)

## M93C46
designator *
footprint M93C46 (SOIC, 8-Leads, Body 4.90x3.90mm, Pitch 1.27mm, IPC Medium Density)
pins: 1 S, 2 C, 3 D, 4 Q, 5 VSS, 6 ORG, 7 DU, 8 VCC

## MAU216
designator MAU216
DC/DC CONVERTER 1W, SIP-Package, High Isolation; VALUE: MAU216
footprint MAU216m
pins: 1 +VIN, 2 -VIN, 5 -VOUT, 6 COMMON, 7 +VOUT

## MAW01
designator MAW01
DC/DC CONVERTER 1W, SIP-Package, High Isolation; VALUE: MAW01
footprint MAW01
pins: 1 -VIN, 2 +VIN, 4 +VOUT, 6 -VOUT

## MAX3075
designator U?
footprint MAX3075
pins: 1 R, 2 ~{RE}, 3 DE, 4 D, 5 GND (power), 6 A, 7 B, 8 VCC (power)

## MAX5033B
designator U?
High-Efficiency, MAXPower    Step-Down DC-DC Converter
footprint MAX5033 (SOIC, 8-Leads, Body 4.90x3.90mm, Pitch 1.27mm, IPC Medium Density)
pins: 1 BST, 2 VD, 3 SGND, 4 FB, 5 ON/OFF, 6 GND, 7 VIN, 8 LX

## MAX9812
designator U?
MIC Pre amplifier
footprint MAX9812 (Pre amplifier)
pins: 1 SHDN, 2 ~{RE}, 3 DE, 4 VCC, 5 BIAS, 6 IN (power)

## MICRO USB
designator C?
WR-COM Micro USB SMT Type B; Manufacturer: Würth Elektronik eiSos GmbH; partNo: 629105136821; ComponentLink1 Description: Manufacturer; ComponentLink2 Description: Datasheet; NoPins: 5; ComponentLink1URL: http://www.we-online.de; ComponentLink2URL: http://katalog.we-online.de/em/datasheet/629105136821.pdf; Created by: Karrer Zheng; Created Date: 10/10/2014
footprint MICRO USB (5 pins)
pins: 1 VCC, 2 D-, 3 D+, 4 ID, 5 GND, Z1 Shield, Z2 Shield, Z3 Shield, Z4 Shield

## Mini USB 2.0 Horizontal
designator J?
WR-COM Mini USB 2.0 Horizontal 5 Contacts SMT Type B with Pads and Pegs
footprint USB-B (Mini USB 2.0 Type B SMT Horizontal 5 Contacts)
pins: 1 VBUS, 2 D-, 3 D+, 4 ID, 5 GND, Shell Shield

## MIW2022
designator U29
DC/DC CONVERTER 3W, SIP-Package, High Isolation; VALUE: MIW2022
pins: 2 -VIN, 3 -VIN, 14 +VOUT, 16 -VOUT, 22 +VIN, 23 +VIN

## MIW4027
designator U29
DC/DC CONVERTER 6W, SIP-Package, High Isolation; VALUE: MIW4027
pins: 2 -VIN, 3 -VIN, 11 -VOUT, 14 +VOUT, 16 COMMON, 22 +VIN, 23 +VIN

## MOUNTING
designator M1, comment M  (no BOM)
footprint MOUNTING
pins: 1, 2, 3, 4, 5, 6, 7

## MPLI
designator U?
Double accelerometer; Manufacturer_Name: InvenSense Inc.; Datasheet Link: http://store.invensense.com/datasheets/invensense/MPU-6050_DataSheet_V3%204.pdf; Height: 0.95mm; Manufacturer_Part_Number: MPU-6050; Mouser Part Number: N/A; Mouser Price/Stock: http://www.mouser.com/Search/ProductDetail.aspx?qs=u4fy%2fsgLU9O14B5JgyQFvg%3d%3d; RS Part Number: 8837948P; RS Price/Stock: http://uk.rs-online.com/web/p/products/8837948P
footprint QFN50P400X400X95-25N
part A pins: 1 CLKIN, 2 NC_1, 3 NC_2, 4 NC_3, 5 NC_4, 6 AUX_DA, 7 AUX_CL, 8 VLOGIC, 9 AD0, 10 REGOUT, 11 FSYNC, 12 INT, 13 VDD, 14 NC_5, 15 NC_6, 16 NC_7, 17 NC_8, 18 GND, 19 RESV_1, 20 CPOUT, 21 RESV_2, 22 RESV_3, 23 SCL, 24 SDA, 25 THERMAL_PAD
part B pins: A1 SCL/SPC, A2 CS (in), A3 SDO/SA0, A4 SDA/SDI/SDO, A5 RES, A6 GND (power), A7 GND (power), A8 GND (power), A9 VDD (power), A10 VDD_IO (power), A11 INT_2 (in), A12 INT_1 (in)

## MPU-6050
designator U?
6 axis Gyro Accelerometter; Manufacturer_Name: InvenSense Inc.; Datasheet Link: http://store.invensense.com/datasheets/invensense/MPU-6050_DataSheet_V3%204.pdf; Height: 0.95mm; Manufacturer_Part_Number: MPU-6050; Mouser Part Number: N/A; Mouser Price/Stock: http://www.mouser.com/Search/ProductDetail.aspx?qs=u4fy%2fsgLU9O14B5JgyQFvg%3d%3d; RS Part Number: 8837948P; RS Price/Stock: http://uk.rs-online.com/web/p/products/8837948P
footprint MPU6050 - duplicate (MPU-6050 accelerometter & gyroscope)
pins: 1 CLKIN, 2 NC_1, 3 NC_2, 4 NC_3, 5 NC_4, 6 AUX_DA, 7 AUX_CL, 8 VLOGIC, 9 AD0, 10 REGOUT, 11 FSYNC, 12 INT, 13 VDD, 14 NC_5, 15 NC_6, 16 NC_7, 17 NC_8, 18 GND, 19 RESV_1, 20 CPOUT, 21 RESV_2, 22 RESV_3, 23 SCL, 24 SDA, 25 THERMAL_PAD

## MPU-6050 Module
designator H?, comment MPU6050
MPU6050 Module Header; LatestRevisionDate: 17-Jul-2002; LatestRevisionNote: Re-released for DXP Platform.; Publisher: Altium Limited
footprint MPU6050 (MPU6050 Accellator , Gyroscope)
pins: 1 VCC, 2 GND, 3 SCL, 4 SDA, 5 XDA, 6 XCL, 7 AD0, 8 INT

## MT3608
designator U?
1.2MHz Current Mode Step_UP Converter
footprint MT3608 (SOT23, 6-Leads, Body 2.90x2.80mm, Pitch 0.95mm, IPC Medium Density)
pins: 1 SW, 2 CND (power), 3 FB, 4 EN, 5 VIN (power), 6 NC

## MXHV9910BE
designator U?
footprint MXHV9910BE
pins: 1 VIN, 2 CS, 3 GND, 4 GATE, 5 PWM_D, 6 VDD, 7 LD, 8 RT

## N25Q128A13EF840E
designator U7, comment N25Q128A13EF840E (MICRON)
128Mb, 3V, Multiple I/O Serial Flash Memory, Quad/Dual; Manuf_Part_2: N25Q256A13EF840E; Manuf_Part_3: N25Q512A13EF840E; ECCN_US/EU: 3A991/NEC; Order: N25Q128A13EF840F-ND; Provided: ST; Ref St: 9171973; Manuf_Part_1: N25Q128A13EF840E; Manuf_1: MICRON; Distrib: MICRON
footprint N25Q128A13EF840E (PQFN, 8-Leads, Body 6.00x5.00mm, Pitch 1.27mm, Thermal Pad 3.00x3.00mm, IPC Medium Density)
pins: 1 S#, 2 DQ1, 3 DQ2/Vpp/W#, 4 VSS (power), 5 DQ0, 6 C, 7 DQ3/HOLD#, 8 VCC (power)

## N_Mosfet
designator Q?
footprint DPAK FDD86252-3N (D-PAK, 3-Pads, Body 6.21x6.73mm (max), IPC Medium Density)
pins: 1 G, 2 D, 3 S

## N_mosfet AP4232BGM
designator Q?, comment Dual nmos
Dual N-N30V7.6A SOP8
footprint LM358 (SOIC, 8-Leads, Body 4.90x3.90mm, Pitch 1.27mm, IPC Medium Density)
part A pins: 1 S1, 2 G1, 7 D1, 8 D1
part B pins: 3 S2, 4 G2, 5 D2, 6 D2

## N_mosfet DMT6012LS
designator Q?, comment DMT6012LSS
60V N-CHANNEL ENHANCEMENT MODE MOSFET
footprint LM358 (SOIC, 8-Leads, Body 4.90x3.90mm, Pitch 1.27mm, IPC Medium Density)
pins: 1 S, 2 S, 3 S, 4 G, 5 D, 6 D, 7 D, 8 D

## Nano SIM Card
designator J?
WR-CRD Nano SIM Card Connector, Push & Pull, 693043020611; Rated Current: 1 A; Contact Resistance: 100 mOhm; Withstanding Voltage: 500 VAC; Working Voltage: 15 VAC; ComponentLink1Description: Manufacturer; ComponentLink1URL: http://www.we-online.de; ComponentLink2Description: Datasheet; ComponentLink2URL: https://katalog.we-online.de/em/datasheet/693043020611.pdf; Part Number: 693043020611; Published Date: August 2018; Publisher: Wurth Elektronik; Operating Temperature: -25 to 85 degC; Packaging: Tape and Reel; Mounting Technology: SMT
footprint 693043020611
footprint Nano SIM Card (Nano SIM Card Connector Push & Pull - 6 Pins, 693043020611)
pins: C1 VCC, C2 RST, C3 CLK, C5 GND, C6 VPP, C7 I/O, Shield

## NEO-7M-0
designator U?
u-blox 7 GPS/GNSS Module*Crystal*ROM*12x16mm; MF: u-blox; Package: SMD-24 u-blox; MP: NEO-7M-0; Digi-Key_Part_Number: *; SnapEDA_Link: https://www.snapeda.com/parts/NEO-7M-0/u-blox/view-part/?ref=snap; Digi-Key_Purchase_URL: *; Value: *
footprint NEO-7M-0 (unlox NEO-7M GPS)
pins: 1 RES (in), 2 D_SEL (in), 3 TIMEPULSE (out), 4 EXTINT (io), 5 USB_DM (io), 6 USB_DP (io), 7 VDD_USB (power), 8 RESET (in), 9 VCC_RF (out), 10 GND (power), 11 RF_IN (in), 12 GND (power), 13 GND (power), 14 ANT_ON (out), 15 RES (in), 16 RES (in), 17 RES (in), 18 SDA/SPICS (io), 19 SCL/SPICLK (io), 20 TXD/SPIMISO (out), 21 RXD/SPIMOSI (in), 22 V_BCKP (power), 23 VCC (power), 24 GND (power)

## NMOS-2
designator Q2
N-Channel Power MOSFET; Note: Pin 2 is electrically connected to pin 4.; Published: 8-Jun-2000; LatestRevisionDate: 17-Jul-2002; LatestRevisionNote: Re-released for DXP Platform.; DatasheetVersion: PD-9.814; PackageVersion: Feb-1997; PackageReference: TO-220AB; Publisher: Altium Limited; PackageDescription: TO, Thru-Hole, Vertical, Heatsink Mounted; 3 In-Line Leads; Pitch 2.54 mm; ComponentLink1Description: Manufacturer Link; ComponentLink1URL: http://www.irf.com/
footprint dpak (DPAK)
simulation model IRF1010 (Spice Subcircuit)
pins: 1 G, 2 D, 3 S

## NTC
designator RT?  (value not drawn)
Published: 8-Jun-2000; LatestRevisionDate: 17-Jul-2002; LatestRevisionNote: Re-released for DXP Platform.; PackageReference: AXIAL-0.5; Publisher: Altium Limited
footprint HEADER1*2 (2.50mm Male Shrouded Header, 2p)
pins: 1, 2
text: -t

## NUP2105L
designator U44, comment NUP2105LT1G
footprint sot-23
pins: 1, 2, 3

## Oscillator
designator X?
footprint Osilator (SMD Crystal OscillatorsCMOS  Output  7.0 x 5.0 x 1.3 mm 7W Series)
pins: 1 EN, 2 GND, 3 OUT, 4 VDD

## Oscillator_Small
designator X?
Oscillator
footprint Oscillator
pins: 1 EN, 2 GND, 3 OUT, 4 VDD

## P_Mosfet
designator Q?
footprint DPAK FDD86252-3N (D-PAK, 3-Pads, Body 6.21x6.73mm (max), IPC Medium Density)
pins: 1 G, 2 D, 3 S

## P_Mosfet IRF7342QTRP
designator Q?, comment IRF7342QTRPBF
dual mosfet
footprint LM358 (SOIC, 8-Leads, Body 4.90x3.90mm, Pitch 1.27mm, IPC Medium Density)
part A pins: 1 S1, 2 G1, 7 D1, 8 D1
part B pins: 3 S2, 4 G2, 5 D2, 6 D2

## PAD XLR
designator P?
footprint PAD XLR
pins: 1, 2, 3, 4, 5

## PB
designator B?
footprint SWITCH-PB4
pins: 1, 2

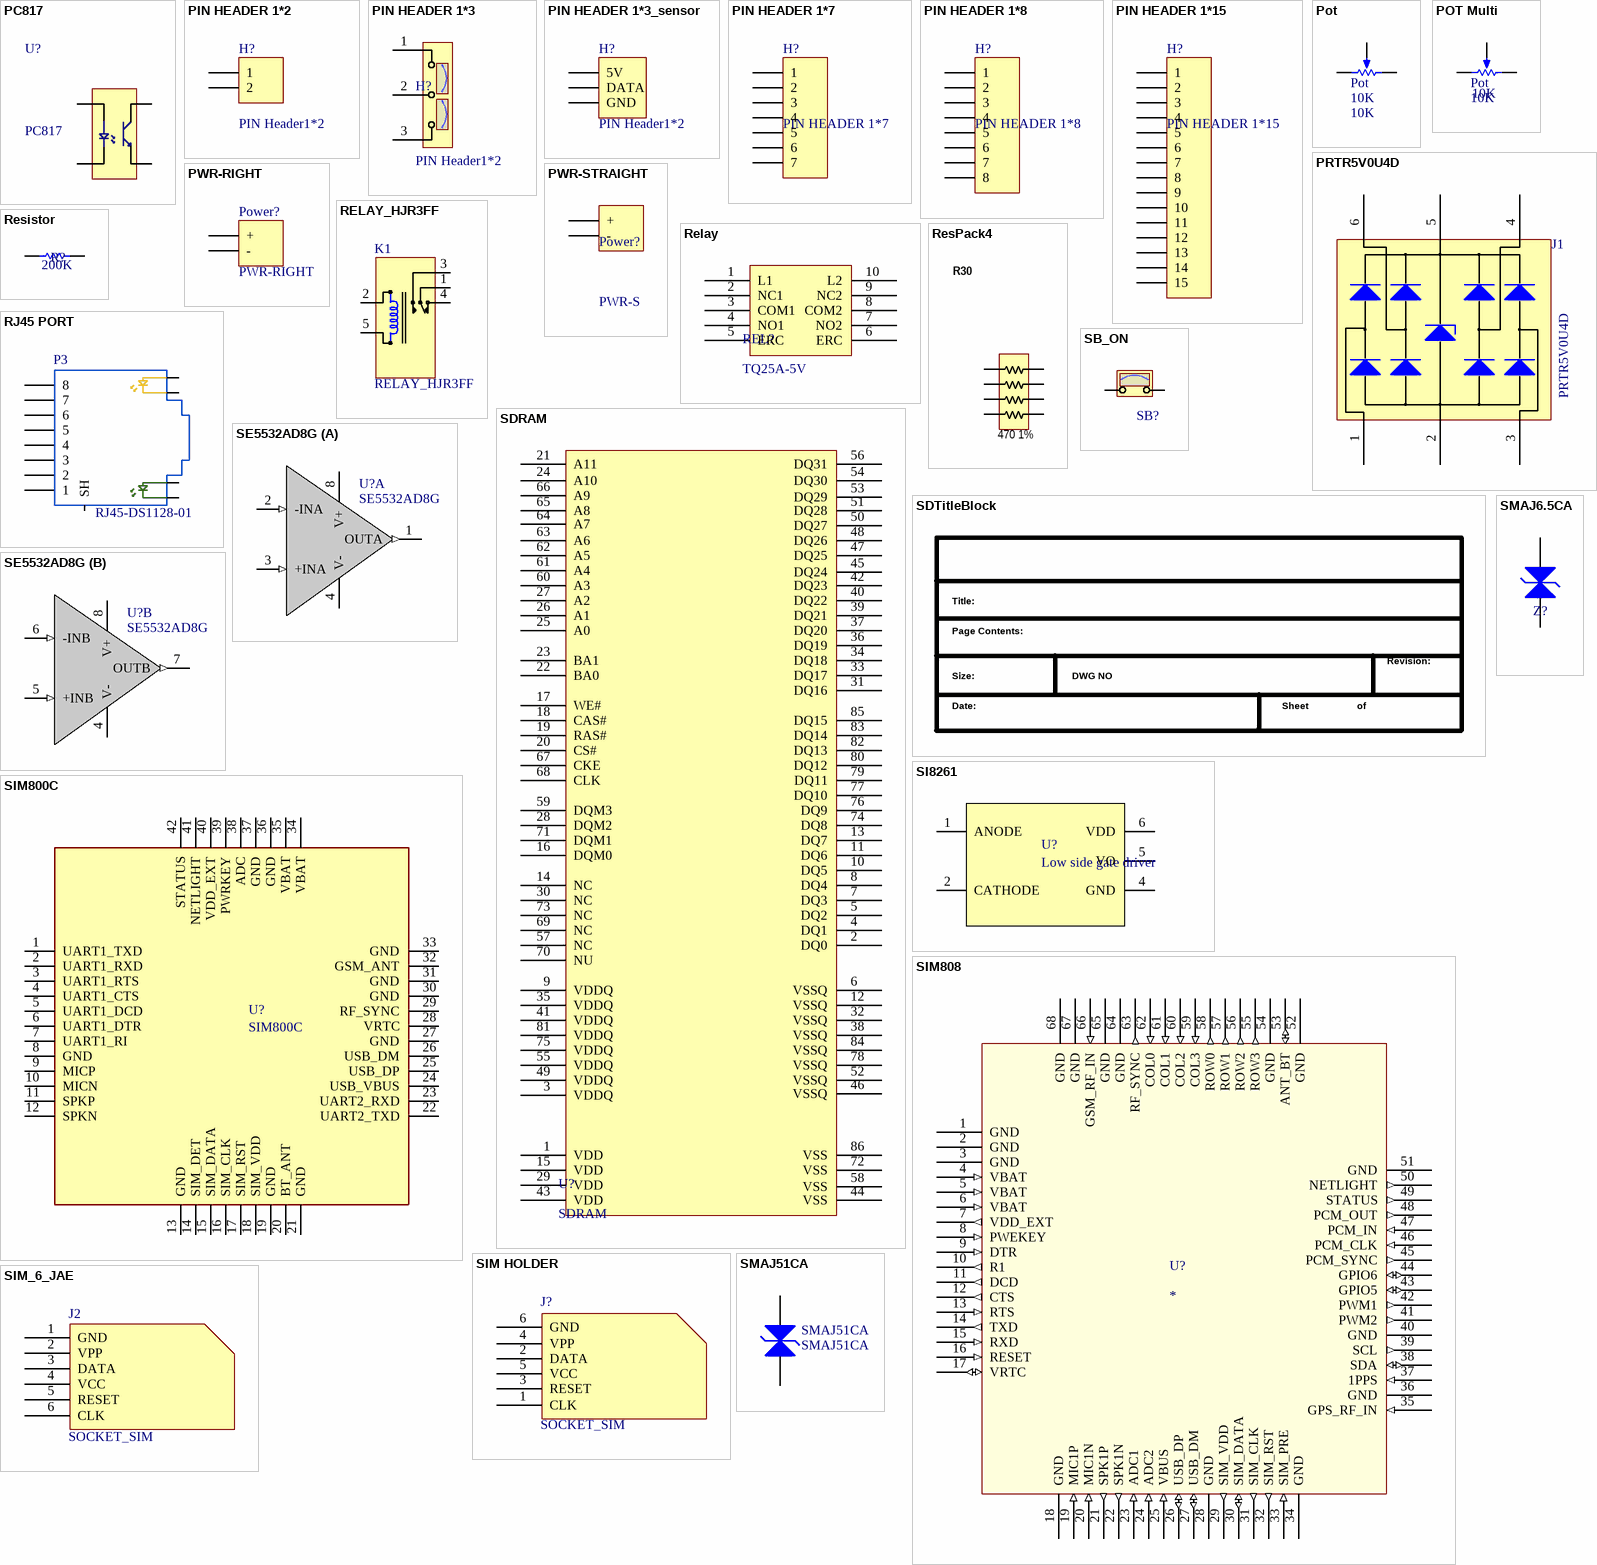
[diagram p3: symbols PC817 to SMAJ51CA]

## PC817
designator U?
PC817 optocoupler
footprint PC817 (PC817 optocoupler)
pins: 1, 2, 3, 4

## PIN HEADER 1*2
designator H?, comment PIN Header1*2
PIN Header, 2-Pin
footprint PIN HEADER 1*2 FEMALE (Socket Header, Pitch 2.54 mm, THT, Vertical, single row, 2p)
pins: 1, 2

## PIN HEADER 1*3
designator H?, comment PIN Header1*2
PIN Header, 2-Pin
footprint PIN HEADER 1*3 MALE (Pin Header, pitch 2.54 mm, THT, Vertical, single row, 4p)
pins: 1, 2, 3

## PIN HEADER 1*3_sensor
designator H?, comment PIN Header1*2
PIN Header, 2-Pin
footprint PIN 1*3 MAGNOMETER (MAGNOMETER)
pins: 1 5V, 2 DATA, 3 GND

## PIN HEADER 1*7
designator H?
LatestRevisionDate: 17-Jul-2002; LatestRevisionNote: Re-released for DXP Platform.; Publisher: Altium Limited
footprint PIN HEADER 1*7 (Pin Header, pitch 2.54 mm, THT, Vertical, single row, 16p)
pins: 1, 2, 3, 4, 5, 6, 7

## PIN HEADER 1*8
designator H?
LatestRevisionDate: 17-Jul-2002; LatestRevisionNote: Re-released for DXP Platform.; Publisher: Altium Limited
footprint PIN HEADER 1*8 (Pin Header, pitch 2.54 mm, THT, Vertical, single row, 16p)
pins: 1, 2, 3, 4, 5, 6, 7, 8

## PIN HEADER 1*15
designator H?
LatestRevisionDate: 17-Jul-2002; LatestRevisionNote: Re-released for DXP Platform.; Publisher: Altium Limited
footprint PIN HEADER 1*15 MALE (Pin Header, pitch 2.54 mm, THT, Vertical, single row, 16p)
signal-integrity model Connector
pins: 1, 2, 3, 4, 5, 6, 7, 8, 9, 10, 11, 12, 13, 14, 15

## Pot
designator Pot, comment 10K
10K-Potentiometer; Value: 10K
footprint POT
pins: 1 TOP, 2 BOT, 3 TAP
1 alternate drawing of the same symbol

## POT Multi
designator Pot, comment 10K
Multiturn potentiometer; Value: 10K
footprint pot multi (multiturn potentiometer)
pins: 1 TOP, 2 TAP, 3 BOT
1 alternate drawing of the same symbol

## PRTR5V0U4D
designator J1
Ultra low capacitance quadruple rail-to-rail ESD protection
footprint MT3608 (SOT23, 6-Leads, Body 2.90x2.80mm, Pitch 0.95mm, IPC Medium Density)
pins: 1, 2, 3, 4, 5, 6

## PWR-RIGHT
designator Power?
LatestRevisionDate: 17-Jul-2002; LatestRevisionNote: Re-released for DXP Platform.; Publisher: Altium Limited
footprint PWR-RIGHT
pins: 1 +, 2 -

## PWR-STRAIGHT
designator Power?, comment PWR-S
LatestRevisionDate: 17-Jul-2002; LatestRevisionNote: Re-released for DXP Platform.; Publisher: Altium Limited
footprint PWR
pins: 1 -, 2 +

## Relay
designator REL?, comment TQ25A-5V
2 CHANEL- INPUT 5V- 1 to 2A
footprint TQ25A-5V (SOP, 10-Leads, Body 14.00x9.05mm, Pitch 2.54mm, IPC Medium Density)
pins: 1 L1, 2 NC1, 3 COM1, 4 NO1, 5 ERC, 6 ERC, 7 NO2, 8 COM2, 9 NC2, 10 L2

## RELAY_HJR3FF
designator K1
Relay, SPDT, 5P, 15.4X12.1mm, 16V/30A; MANF: OMRON; MANF_P#: G8QN-1C4 DC12; PARAM2: 16VDC, 30A; PARAM: 12V, 50mA; PRICE: PRICE; Value: RELAY_HJR3FF
footprint REL_SPDT_5_1512 (RELAY, SPDT, 15.40x12.10x14.0mm, G8QN, SUN HOLD RAM)
simulation model SPDTRELAY (Spice Subcircuit)
pins: 1 COM, 2 T1, 3 NO, 4 NC, 5 T2

## Resistor
designator R?, comment 200K
0603,0.1W; Published: 8-Jun-2000; LatestRevisionDate: 17-Jul-2002; LatestRevisionNote: Re-released for DXP Platform.; PackageReference: AXIAL-0.5; Publisher: Altium Limited; Value: 200K
footprint RESC0603
pins: 1, 2

## ResPack4
designator R30, comment 470 1%
Value: 470 1%
footprint 1608[0603]x4 (Res Pack; 4x0603)
pins: 1, 2, 3, 4, 5, 6, 7, 8

## RJ45 PORT
designator P3, comment RJ45-DS1128-01
footprint RJ45-RS485
pins: 1, 2, 3, 4, 5, 6, 7, 8, G+, G-, SH, Y+, Y-

## SB_ON
designator SB?, comment Solder Bridge ON  (value not drawn)
Solder: YES; Revision: July-2002: Re-released for DXP Platform.; ECCN_US/EU: n/a
footprint RES 0R
pins: 1, 2

## SDRAM
designator U?
TSOP-MT48LC4M32B2 – 1 Meg x 32 x 4 Banks
footprint SDRAM (TSOP, 86-Leads, Body 22.22x10.16mm, Pitch 0.50mm, MT48LC4M32B2 – 1 Meg x 32 x 4 Banks)
pins: 1 VDD (power), 2 DQ0, 3 VDDQ (power), 4 DQ1, 5 DQ2, 6 VSSQ (power), 7 DQ3, 8 DQ4, 9 VDDQ (power), 10 DQ5, 11 DQ6, 12 VSSQ (power), 13 DQ7, 14 NC, 15 VDD (power), 16 DQM0, 17 WE#, 18 CAS#, 19 RAS#, 20 CS#, 21 A11, 22 BA0, 23 BA1, 24 A10, 25 A0, 26 A1, 27 A2, 28 DQM2, 29 VDD (power), 30 NC, 31 DQ16, 32 VSSQ (power), 33 DQ17, 34 DQ18, 35 VDDQ (power), 36 DQ19, 37 DQ20, 38 VSSQ (power), 39 DQ21, 40 DQ22, 41 VDDQ (power), 42 DQ23, 43 VDD (power), 44 VSS (power), 45 DQ24, 46 VSSQ (power), 47 DQ25, 48 DQ26, 49 VDDQ (power), 50 DQ27, 51 DQ28, 52 VSSQ (power), 53 DQ29, 54 DQ30, 55 VDDQ (power), 56 DQ31, 57 NC, 58 VSS (power), 59 DQM3, 60 A3, 61 A4, 62 A5, 63 A6, 64 A7, 65 A8, 66 A9, 67 CKE, 68 CLK, 69 NC, 70 NU, 71 DQM1, 72 VSS (power), 73 NC, 74 DQ8, 75 VDDQ (power), 76 DQ9, 77 DQ10, 78 VSSQ (power), 79 DQ11, 80 DQ12, 81 VDDQ (power), 82 DQ13, 83 DQ14, 84 VSSQ (power), 85 DQ15, 86 VSS (power)

## SDTitleBlock
designator *?  (value not drawn)  (graphical)
text: Title:; Page Contents:; Revision:; Size:; DWG NO; Date:; Sheet; of

## SE5532AD8G
designator U?
No Description Available; Vendor: ON Semiconductor; Copyright: Copyright (C) 2016 Accelerated Designs. All rights reserved; Manufacturer_Part_Number: SE5532AD8G; RefDes: RefDes; Type: DEV; Value: Value
part A pins: 1 OUTA (out), 2 -INA (in), 3 +INA (in), 4 V- (power), 8 V+ (power)
part B pins: 4 V- (power), 5 +INB (in), 6 -INB (in), 7 OUTB (out), 8 V+ (power)

## SI8261
designator U?, comment Low side gate driver
footprint SI8261 (Isolated gate driver)
pins: 1 ANODE, 2 CATHODE, 4 GND, 5 VO, 6 VDD

## SIM800C
designator U?
SIM800 GPRS/GSM Modem; Manufacturer_Name: SIMCOM; Datasheet Link: http://www.sabreadv.com/wp-content/uploads/SIM800C_Hardware_Design_V1.00.pdf; Manufacturer_Part_Number: sim800c
footprint SIM800C (GSM/GPRS Module)
pins: 1 UART1_TXD, 2 UART1_RXD, 3 UART1_RTS, 4 UART1_CTS, 5 UART1_DCD, 6 UART1_DTR, 7 UART1_RI, 8 GND, 9 MICP, 10 MICN, 11 SPKP, 12 SPKN, 13 GND, 14 SIM_DET, 15 SIM_DATA, 16 SIM_CLK, 17 SIM_RST, 18 SIM_VDD, 19 GND, 20 BT_ANT, 21 GND, 22 UART2_TXD, 23 UART2_RXD, 24 USB_VBUS, 25 USB_DP, 26 USB_DM, 27 GND, 28 VRTC, 29 RF_SYNC, 30 GND, 31 GND, 32 GSM_ANT, 33 GND, 34 VBAT, 35 VBAT, 36 GND, 37 GND, 38 ADC, 39 PWRKEY, 40 VDD_EXT, 41 NETLIGHT, 42 STATUS

## SIM808
designator U?
high performance GSM/GPRS
footprint GSM_SIM900 (SIM900_SIM900A)
pins: 1 GND (power), 2 GND (power), 3 GND (power), 4 VBAT (in), 5 VBAT (in), 6 VBAT (in), 7 VDD_EXT (out), 8 PWEKEY (in), 9 DTR (in), 10 R1 (out), 11 DCD (out), 12 CTS (out), 13 RTS (in), 14 TXD (out), 15 RXD (in), 16 RESET (in), 17 VRTC (io), 18 GND (power), 19 MIC1P (in), 20 MIC1N (in), 21 SPK1P (out), 22 SPK1N (out), 23 ADC1 (in), 24 ADC2 (in), 25 VBUS (in), 26 USB_DP (io), 27 USB_DM (io), 28 GND (power), 29 SIM_VDD (out), 30 SIM_DATA (io), 31 SIM_CLK (out), 32 SIM_RST (out), 33 SIM_PRE (in), 34 GND (power), 35 GPS_RF_IN (in), 36 GND (power), 37 1PPS (in), 38 SDA (io), 39 SCL (out), 40 GND (power), 41 PWM2 (out), 42 PWM1 (out), 43 GPIO5 (io), 44 GPIO6 (io), 45 PCM_SYNC (out), 46 PCM_CLK (in), 47 PCM_IN (in), 48 PCM_OUT (out), 49 STATUS (out), 50 NETLIGHT (out), 51 GND (power), 52 GND (power), 53 ANT_BT (io), 54 GND (power), 55 ROW3 (out), 56 ROW2 (out), 57 ROW1 (out), 58 ROW0 (out), 59 COL3 (in), 60 COL2 (in), 61 COL1 (in), 62 COL0 (in), 63 RF_SYNC (out), 64 GND (power), 65 GND (power), 66 GSM_RF_IN (in), 67 GND (power), 68 GND (power)

## SIM HOLDER
designator J?  value SOCKET_SIM  (hidden comment: SIM HOLDER)
SOCKET, Hinged Lid, available; MANF_P#: SF7W006S1AE1000; MANF: JAE; PARAM: Hinged Lid; PRICE: 3$
footprint SIM HOLDER 6PIN (MICRI SIM HOLDER 6PIN KA306)
pins: 1 CLK, 2 DATA, 3 RESET, 4 VPP, 5 VCC, 6 GND "Not connect"

## SIM_6_JAE
designator J2, comment SOCKET_SIM
SOCKET, SIM MINI, Hinged Lid, exist on Iran; MANF_P#: SF7W006S1AE1000; MANF: JAE; PARAM: Hinged Lid; PRICE: 3$; VALUE: SOCKET_SIM
footprint SIM CARD (SIM CARD CONNECTOR HEADER SHIELD ED 6PINS, 693010020611)
pins: 1 GND "Not connect", 2 VPP, 3 DATA, 4 VCC, 5 RESET, 6 CLK

## SMAJ6.5CA
designator Z?
SMAJ6.5CA-TR is a Bidirectional zener- Marking DBC- for ST
footprint SMAJ6.5CA (Transient Voltage Suppressor-Bidirectional zener diode)
pins: 1 A, 2 B

## SMAJ51CA
designator SMAJ51CA
SMAJ51CA-TR is a Bidirectional zener- Marking DBC- for ST
footprint SMAJ6.5CA (Transient Voltage Suppressor-Bidirectional zener diode)
pins: 1 A, 2 B

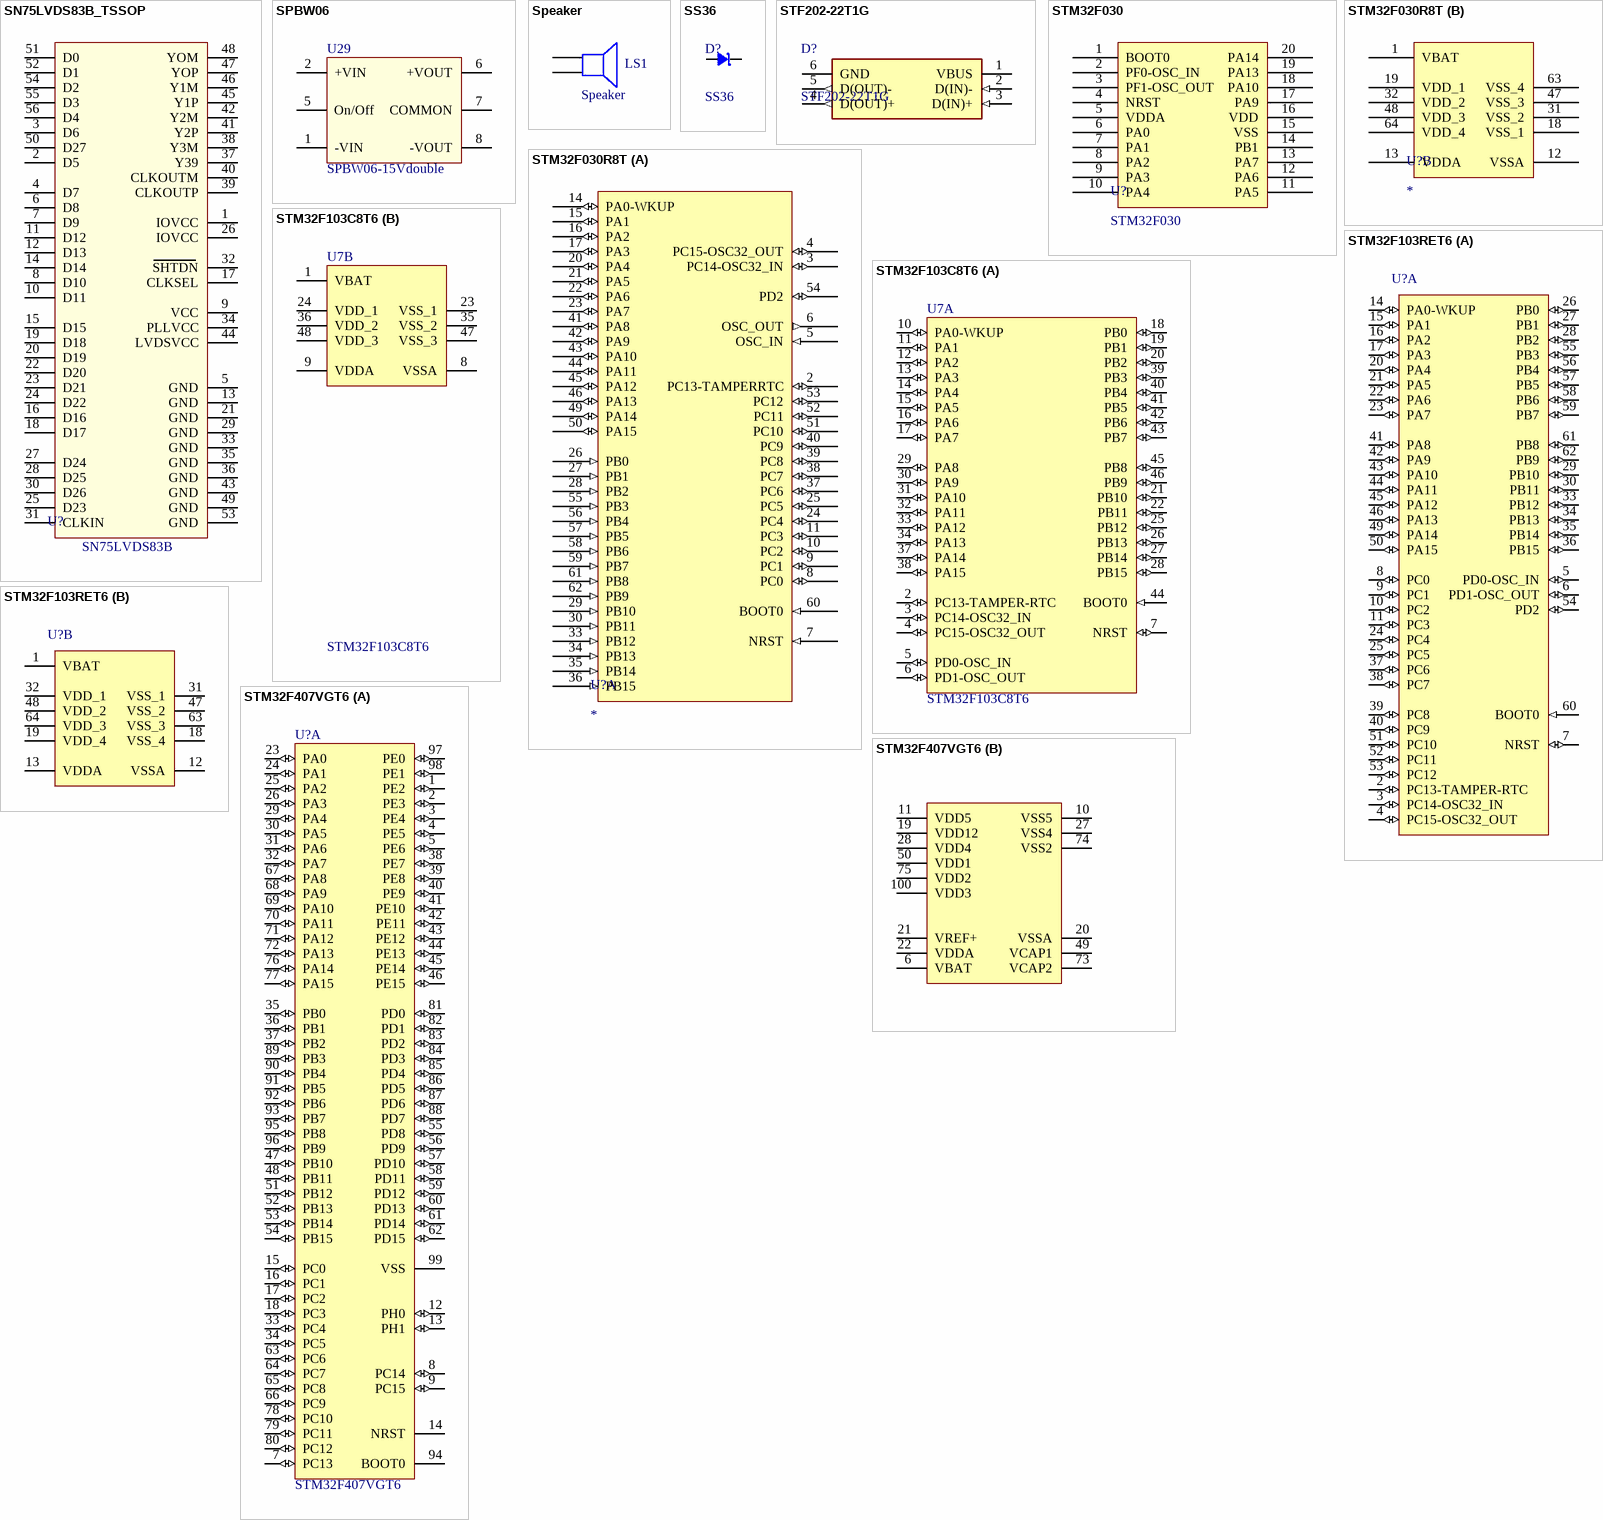
[diagram p4: symbols SN75LVDS83B_TSSOP to STM32F407VGT6]

## SN75LVDS83B_TSSOP
designator U?, comment SN75LVDS83B
Transmitter LCD to LVDS, 28 chanel, 18 bit GPU to 24 bit LCD; VALUE: SN75LVDS83B
pins: 1 IOVCC, 2 D5, 3 D6, 4 D7, 5 GND (power), 6 D8, 7 D9, 8 D10, 9 VCC (power), 10 D11, 11 D12, 12 D13, 13 GND (power), 14 D14, 15 D15, 16 D16, 17 CLKSEL, 18 D17, 19 D18, 20 D19, 21 GND (power), 22 D20, 23 D21, 24 D22, 25 D23, 26 IOVCC, 27 D24, 28 D25, 29 GND (power), 30 D26, 31 CLKIN, 32 SHTDN, 33 GND (power), 34 PLLVCC (power), 35 GND (power), 36 GND (power), 37 Y39, 38 Y3M, 39 CLKOUTP, 40 CLKOUTM, 41 Y2P, 42 Y2M, 43 GND (power), 44 LVDSVCC (power), 45 Y1P, 46 Y1M, 47 YOP, 48 YOM, 49 GND (power), 50 D27, 51 D0, 52 D1, 53 GND (power), 54 D2, 55 D3, 56 D4

## SPBW06
designator U29, comment SPBW06-15Vdouble
DC/DC CONVERTER 6W, SIP-Package, High Isolation; VALUE: SPBW06-15Vdouble
footprint spi SPBW06 (MeanWell SPBW06 & DPBW06 series)
pins: 1 -VIN, 2 +VIN, 5 On/Off , 6 +VOUT, 7 COMMON, 8 -VOUT

## Speaker
designator LS1
Loudspeaker; Published: 24-Mar-1999; LatestRevisionDate: 17-Jul-2002; LatestRevisionNote: Re-released for DXP Platform.; PackageReference: PIN2; Publisher: Altium Limited
footprint 653102131822 (Footprint not found)
pins: 1, 2

## SS36
designator D?
Fast Schottky Diode; Published: 8-Jun-2000; LatestRevisionDate: 17-Jul-2002; LatestRevisionNote: Re-released for DXP Platform.; PackageReference: SMB; Publisher: Altium Limited; Code_JEDEC: DO-214-AA
footprint SMA
pins: 1 A, 2 K

## STF202-22T1G
designator D?
ESD Suppressors / TVS Diodes Upstream USB Port Filter w/6V TVS; Published: 8-Jun-2000; LatestRevisionDate: 17-Jul-2002; LatestRevisionNote: Re-released for DXP Platform.; PackageReference: SMB; Publisher: Altium Limited; Code_JEDEC: DO-214-AA
footprint SMA
pins: 1 VBUS, 2 D(IN)- (in), 3 D(IN)+ (in), 4 D(OUT)+ (out), 5 D(OUT)- (out), 6 GND (power)

## STM32F030
designator U?
footprint STM32F030 (TSOP, 20-Leads, Body 6.50x4.40mm, Pitch 0.65mm, IPC Medium Density)
pins: 1 BOOT0, 2 PF0-OSC_IN, 3 PF1-OSC_OUT, 4 NRST, 5 VDDA, 6 PA0, 7 PA1, 8 PA2, 9 PA3, 10 PA4, 11 PA5, 12 PA6, 13 PA7, 14 PB1, 15 VSS, 16 VDD, 17 PA9, 18 PA10, 19 PA13, 20 PA14

## STM32F030R8T
designator U?
footprint LQFP, 64 (LQFP, 64-Leads, Body 10.00x10.00mm, Pitch 0.50mm, IPC Medium Density)
part A pins: 2 PC13-TAMPERRTC (io), 3 PC14-OSC32_IN (io), 4 PC15-OSC32_OUT (io), 5 OSC_IN (in), 6 OSC_OUT (out), 7 NRST (in), 8 PC0 (io), 9 PC1 (io), 10 PC2 (io), 11 PC3 (io), 14 PA0-WKUP (io), 15 PA1 (io), 16 PA2 (io), 17 PA3 (io), 20 PA4 (io), 21 PA5 (io), 22 PA6 (io), 23 PA7 (io), 24 PC4 (io), 25 PC5 (io), 26 PB0 (in), 27 PB1 (in), 28 PB2 (in), 29 PB10 (in), 30 PB11 (in), 33 PB12 (in), 34 PB13 (in), 35 PB14 (in), 36 PB15 (in), 37 PC6 (io), 38 PC7 (io), 39 PC8 (io), 40 PC9 (io), 41 PA8 (io), 42 PA9 (io), 43 PA10 (io), 44 PA11 (io), 45 PA12 (io), 46 PA13 (io), 49 PA14 (io), 50 PA15 (io), 51 PC10 (io), 52 PC11 (io), 53 PC12 (io), 54 PD2 (io), 55 PB3 (in), 56 PB4 (in), 57 PB5 (in), 58 PB6 (in), 59 PB7 (in), 60 BOOT0 (in), 61 PB8 (in), 62 PB9 (in)
part B pins: 1 VBAT (power), 12 VSSA (power), 13 VDDA (power), 18 VSS_1 (power), 19 VDD_1 (power), 31 VSS_2 (power), 32 VDD_2 (power), 47 VSS_3 (power), 48 VDD_3 (power), 63 VSS_4 (power), 64 VDD_4 (power)

## STM32F103C8T6
designator U7
ARM Cortex-M3 32-bit MCU, 64 KB Flash, 20 KB Internal RAM, 37 I/Os, 48-pin LQFP, -40 to 85 degC, Tray; A/D Converter: 2x12-bit (10 Channel); FLASH Size (Prog) (kB): 64; I/Os (High Current): 37; Internal RAM Size (kB): 20; Operating Frequency(F) (Processor speed) (MHz): 72; Supply Voltage(Vcc) min (V): 2; DatasheetVersion: Rev. 16; PackageVersion: Rev. 6, 06/2013; PackageReference: LQFP48; PackageDescription: 48-Pin Low Profile Quad Flat Package, 7 x 7 mm Body, 0.5 mm Pitch; Supplier 1: Digi-Key; Supplier Part Number 1: 497-6063-ND; Supplier 2: Farnell; Supplier Part Number 2: 1447637; Supplier 3: Newark; Supplier Part Number 3: 59M2182; Supplier 4: Newark; Supplier Part Number 4: 57P1222; Supplier 5: Mouser; Supplier Part Number 5: 511-STM32F103C8T6; Core: ARM Cortex-M3; Packing: Tray; Mounting Technology: Surface Mount; PartNumber: STM32F103C8T6; ComponentLink1Description: Manufacturer URL; ComponentLink1URL: http://www.st.com/web/en/home.html; ComponentLink2Description: Datasheet; ComponentLink2URL: http://www.st.com/st-web-ui/static/active/en/resource/technical/document/datasheet/CD00161566.pdf; ComponentLink3Description: Package Specification; ComponentLink3URL: http://www.st.com/st-web-ui/static/active/en/resource/technical/document/datasheet/DM00058181.pdf
footprint STM32F103C8T6 (Thin QFP, 48-Leads, Body 7x7mm, Pitch 0.5mm, IPC Low Density)
footprint STM-LQFP48_L (QFP, 48-Leads, Body 7x7mm, Pitch 0.5mm, IPC High Density)
footprint STM-LQFP48_M (QFP, 48-Leads, Body 7x7mm, Pitch 0.5mm, IPC Low Density)
footprint STM32F103C8T6 (Thin QFP, 48-Leads, Body 7x7mm, Pitch 0.5mm, IPC Low Density)
part A pins: 2 PC13-TAMPER-RTC (io) "PC13-TAMPER-RTC/PC13/TAMPER-RTC", 3 PC14-OSC32_IN (io) "PC14-OSC32_IN/PC14/OSC32_IN", 4 PC15-OSC32_OUT (io) "PC15-OSC32_OUT/PC15/OSC32_OUT", 5 PD0-OSC_IN (io) "PD0/OSC_IN", 6 PD1-OSC_OUT (io) "PD1/OSC_OUT", 7 NRST (io), 10 PA0-WKUP (io) "PA0-WKUP/PA0/WKUP/USART2_CTS/ADC12_IN0/TIM2_CH1_ETR", 11 PA1 (io) "PA1/USART2_RTS/ADC12_IN1/TIM2_CH2", 12 PA2 (io) "PA2/USART2_TX/ADC12_IN2/TIM2_CH3", 13 PA3 (io) "PA3/USART2_RX/ADC12_IN3/TIM2_CH4", 14 PA4 (io) "PA4/SPI1_NSS/USART2_CK/ADC12_IN4", 15 PA5 (io) "PA5/SPI1_SCK/ADC12_IN5", 16 PA6 (io) "PA6/SPI1_MISO/ADC12_IN6/TIM3_CH1/TIM1_BKIN", 17 PA7 (io) "PA7/SPI1_MOSI/ADC12_IN7/TIM3_CH2/TIM1_CH1N", 18 PB0 (io) "PB0/ADC12_IN8/TIM3_CH3/TIM1_CH2N", 19 PB1 (io) "PB1/ADC12_IN9/TIM3_CH4/TIM1_CH3N", 20 PB2 (io) "PB2/BOOT1", 21 PB10 (io) "PB10/I2C2_SCL/USART3_TX/TIM2_CH3", 22 PB11 (io) "PB11/I2C2_SDA/USART3_RX/TIM2_CH4", 25 PB12 (io) "PB12/SPI2_NSS/I2C2_SMBAl/USART3_CK/TIM1_BKIN", 26 PB13 (io) "PB13/SPI2_SCK/USART3_CTS/TIM1_CH1N", 27 PB14 (io) "PB14/SPI2_MISO/USART3_RTS/TIM1_CH2N", 28 PB15 (io) "PB15/SPI2_MOSI/TIM1_CH3N", 29 PA8 (io) "PA8/USART1_CK/TIM1_CH1/MCO", 30 PA9 (io) "PA9/USART1_TX/TIM1_CH2", 31 PA10 (io) "PA10/USART1_RX/TIM1_CH3", 32 PA11 (io) "PA11/USART1_CTS/CANRX/USBDM/TIM1_CH4", 33 PA12 (io) "PA12/USART1_RTS/CANTX/USBDP/TIM1_ETR", 34 PA13 (io) "PA13/JTMS/SWDIO", 37 PA14 (io) "PA14/JTCK/SWCLK", 38 PA15 (io) "PA15/JTDI/TIM2_CH1_ETR/SPI1_NSS", 39 PB3 (io) "PB3/JTDO/TIM2_CH2/TRACESWO/SPI1_SCK", 40 PB4 (io) "PB4/NJTRST/TIM3_CH1/SPI1_MISO", 41 PB5 (io) "PB5/I2C1_SMBAI/TIM3_CH2/SPI1_MOSI", 42 PB6 (io) "PB6/I2C1_SCL/TIM4_CH1/USART1_TX", 43 PB7 (io) "PB7/I2C1_SDA/TIM4_CH2/USART1_RX", 44 BOOT0 (in), 45 PB8 (io) "PB8/TIM4_CH3/I2C1_SCL/CANRX", 46 PB9 (io) "PB9/TIM4_CH4/I2C1_SDA/CANTX"
part B pins: 1 VBAT (power), 8 VSSA (power), 9 VDDA (power), 23 VSS_1 (power), 24 VDD_1 (power), 35 VSS_2 (power), 36 VDD_2 (power), 47 VSS_3 (power), 48 VDD_3 (power)

## STM32F103RET6
designator U?
ARM Cortex-M3 32-bit MCU, 512 KB Flash, 64 KB Internal RAM, 51 I/Os, 64-pin LQFP, -40 to 85 degC, Tray; PartNumber: STM32F103RET6; A/D Converter: 3x12-bit (16 Channel); D/A Converter: 2x12-bit (2 Channel); FLASH Size (Prog) (kB): 512; I/Os (High Current): 51; Internal RAM Size (kB): 64; Operating Frequency(F) (Processor speed) (MHz): 72; Supply Voltage(Vcc) min (V): 2; DatasheetVersion: Rev. 8; PackageVersion: Rev. 4, 06/2013; PackageReference: LQFP64; PackageDescription: 64-Pin Low Profile Quad Flat Package, 10 x 10 mm Body, 0.5 mm Pitch; Supplier 1: Digi-Key; Supplier Part Number 1: 497-6444-ND; Supplier 2: Farnell; Supplier Part Number 2: 1624138; Supplier 3: Newark; Supplier Part Number 3: 01P4101; Supplier 4: Newark; Supplier Part Number 4: 57P1231; Supplier 5: Mouser; Supplier Part Number 5: 511-STM32F103RET6; Core: ARM Cortex-M3; Packing: Tray; Mounting Technology: Surface Mount; ComponentLink1Description: Manufacturer URL; ComponentLink1URL: http://www.st.com/web/en/home.html; ComponentLink2Description: Datasheet; ComponentLink2URL: http://www.st.com/st-web-ui/static/active/en/resource/technical/document/datasheet/CD00191185.pdf; ComponentLink3Description: Package Specification; ComponentLink3URL: http://www.st.com/st-web-ui/static/active/en/resource/technical/document/datasheet/DM00037051.pdf
footprint STM32F103RET6 (TSQFP, 64-Leads, Body 10.00x10.00mm, Pitch 0.50mm, IPC Medium Density)
footprint STM-LQFP64_L (Thin QFP, 64-Leads, Body 10x10mm, Pitch 0.5mm, IPC High Density)
footprint STM-LQFP64_M (Thin QFP, 64-Leads, Body 10x10mm, Pitch 0.5mm, IPC Low Density)
footprint STM-LQFP64_V (Thin QFP, 64-Leads, Body 10x10mm, Pitch 0.5mm, ST Recommended)
part A pins: 2 PC13-TAMPER-RTC (io) "PC13-TAMPER-RTC/PC13/TAMPER-RTC", 3 PC14-OSC32_IN (io) "PC14-OSC32_IN/PC14/OSC32_IN", 4 PC15-OSC32_OUT (io) "PC15-OSC32_OUT/PC15/OSC32_OUT", 5 PD0-OSC_IN (io) "PD0/OSC_IN/CAN_RX", 6 PD1-OSC_OUT (io) "PD1/OSC_OUT/CAN_TX", 7 NRST (io), 8 PC0 (io) "PC0/ADC123_IN10", 9 PC1 (io) "PC1/ADC123_IN11", 10 PC2 (io) "PC2/ADC123_IN12", 11 PC3 (io) "PC3/ADC123_IN13", 14 PA0-WKUP (io) "PA0-WKUP/PA0/WKUP/USART2_CTS/ADC123_IN0/TIM2_CH1_ETR/TIM5_CH1/TIM8_ETR", 15 PA1 (io) "PA1/USART2_RTS/ADC123_IN1/TIM5_CH2/TIM2_CH2", 16 PA2 (io) "PA2/USART2_TX/TIM5_CH3/ADC123_IN2/TIM2_CH3", 17 PA3 (io) "PA3/USART2_RX/TIM5_CH4/ADC123_IN3/TIM2_CH4", 20 PA4 (io) "PA4/SPI1_NSS/USART2_CK/DAC_OUT1/ADC12_IN4", 21 PA5 (io) "PA5/SPI1_SCK/DAC_OUT2/ADC12_IN5", 22 PA6 (io) "PA6/SPI1_MISO/TIM8_BKIN/ADC12_IN6/TIM3_CH1/TIM1_BKIN", 23 PA7 (io) "PA7/SPI1_MOSI/TIM8_CH1N/ADC12_IN7/TIM3_CH2/TIM1_CH1N", 24 PC4 (io) "PC4/ADC12_IN14", 25 PC5 (io) "PC5/ADC12_IN15", 26 PB0 (io) "PB0/ADC12_IN8/TIM3_CH3/TIM8_CH2N/TIM1_CH2N", 27 PB1 (io) "PB1/ADC12_IN9/TIM3_CH4/TIM8_CH3N/TIM1_CH3N", 28 PB2 (io) "PB2/BOOT1", 29 PB10 (io) "PB10/I2C2_SCL/USART3_TX/TIM2_CH3", 30 PB11 (io) "PB11/I2C2_SDA/USART3_RX/TIM2_CH4", 33 PB12 (io) "PB12/SPI2_NSS/I2S2_WS/I2C2_SMBA/USART3_CK/TIM1_BKIN", 34 PB13 (io) "PB13/SPI2_SCK/I2S2_CK/USART3_CTS/TIM1_CH1N", 35 PB14 (io) "PB14/SPI2_MISO/TIM1_CH2N/USART3_RTS", 36 PB15 (io) "PB15/SPI2_MOSI/I2S2_SD/TIM1_CH3N", 37 PC6 (io) "PC6/I2S2_MCK/TIM8_CH1/SDIO_D6/TIM3_CH1", 38 PC7 (io) "PC7/I2S3_MCK/TIM8_CH2/SDIO_D7/TIM3_CH2", 39 PC8 (io) "PC8/TIM8_CH3/SDIO_D0/TIM3_CH3", 40 PC9 (io) "PC9/TIM8_CH4/SDIO_D1/TIM3_CH4", 41 PA8 (io) "PA8/USART1_CK/TIM1_CH1/MCO", 42 PA9 (io) "PA9/USART1_TX/TIM1_CH2", 43 PA10 (io) "PA10/USART1_RX/TIM1_CH3", 44 PA11 (io) "PA11/USART1_CTS/USBDM/CAN_RX/TIM1_CH4", 45 PA12 (io) "PA12/USART1_RTS/USBDP/CAN_TX/TIM1_ETR", 46 PA13 (io) "PA13/JTMS-SWDIO", 49 PA14 (io) "PA14/JTCK-SWCLK", 50 PA15 (io) "PA15/JTDI/SPI3_NSS/I2S3_WS/TIM2_CH1_ETR/SPI1_NSS", 51 PC10 (io) "PC10/UART4_TX/SDIO_D2/USART3_TX", 52 PC11 (io) "PC11/UART4_RX/SDIO_D3/USART3_RX", 53 PC12 (io) "PC12/UART5_TX/SDIO_CK/USART3_CK", 54 PD2 (io) "PD2/TIM3_ETR/UART5_RX/SDIO_CMD", 55 PB3 (io) "PB3/JTDO/SPI3_SCK/I2S3_CK/TRACESWO/TIM2_CH2/SPI1_SCK", 56 PB4 (io) "PB4/NJTRST/SPI3_MISO/TIM3_CH1/SPI1_MISO", 57 PB5 (io) "PB5/I2C1_SMBA/SPI3_MOSI/I2S3_SD/TIM3_CH2/SPI1_MOSI", 58 PB6 (io) "PB6/I2C1_SCL/TIM4_CH1/USART1_TX", 59 PB7 (io) "PB7/I2C1_SDA/TIM4_CH2/USART1_RX", 60 BOOT0 (in), 61 PB8 (io) "PB8/TIM4_CH3/SDIO_D4/I2C1_SCL/CAN_RX", 62 PB9 (io) "PB9/TIM4_CH4/SDIO_D5/I2C1_SDA/CAN_TX"
part B pins: 1 VBAT (power), 12 VSSA (power), 13 VDDA (power), 18 VSS_4 (power), 19 VDD_4 (power), 31 VSS_1 (power), 32 VDD_1 (power), 47 VSS_2 (power), 48 VDD_2 (power), 63 VSS_3 (power), 64 VDD_3 (power)